# Altium schematic symbol library MCU_ST_STM32L4.SchLib: 320 symbols (part 2 of 9)
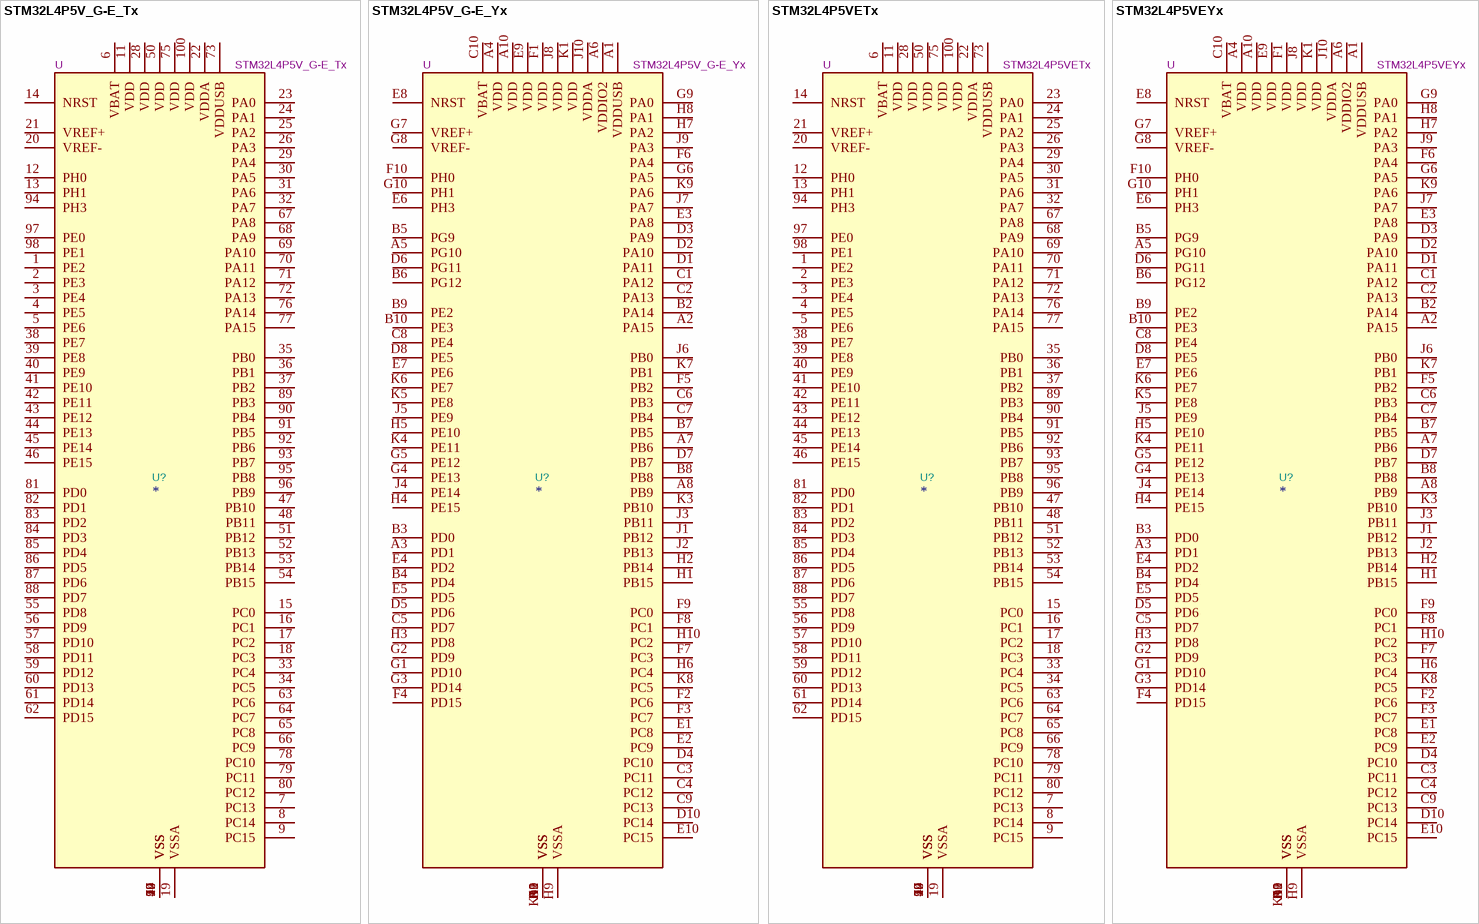
[diagram p64: symbols STM32L4P5V_G-E_Tx to STM32L4P5VEYx]

## STM32L4P5VETx
designator U?  value STM32L4P5VETx  Reference: U
STMicroelectronics Arm Cortex-M4 MCU, 512KB flash, 320KB RAM, 120 MHz, 1.71-3.6V, 83 GPIO, LQFP100; ki_keywords: Arm Cortex-M4 STM32L4+ STM32L4P5/Q5; ki_fp_filters: LQFP*14x14mm*P0.5mm*; Footprint: Package_QFP:LQFP-100_14x14mm_P0.5mm; Datasheet: https://www.st.com/resource/en/datasheet/stm32l4p5ve.pdf; Description_: STMicroelectronics Arm Cortex-M4 MCU, 512KB flash, 320KB RAM, 120 MHz, 1.71-3.6V, 83 GPIO, LQFP100
pins: 1 PE2, 2 PE3, 3 PE4, 4 PE5, 5 PE6, 6 VBAT, 7 PC13, 8 PC14, 9 PC15, 10 VSS, 11 VDD, 12 PH0, 13 PH1, 14 NRST, 15 PC0, 16 PC1, 17 PC2, 18 PC3, 19 VSSA, 20 VREF-, 21 VREF+, 22 VDDA, 23 PA0, 24 PA1, 25 PA2, 26 PA3, 27 VSS, 28 VDD, 29 PA4, 30 PA5, 31 PA6, 32 PA7, 33 PC4, 34 PC5, 35 PB0, 36 PB1, 37 PB2, 38 PE7, 39 PE8, 40 PE9, 41 PE10, 42 PE11, 43 PE12, 44 PE13, 45 PE14, 46 PE15, 47 PB10, 48 PB11, 49 VSS, 50 VDD, 51 PB12, 52 PB13, 53 PB14, 54 PB15, 55 PD8, 56 PD9, 57 PD10, 58 PD11, 59 PD12, 60 PD13, 61 PD14, 62 PD15, 63 PC6, 64 PC7, 65 PC8, 66 PC9, 67 PA8, 68 PA9, 69 PA10, 70 PA11, 71 PA12, 72 PA13, 73 VDDUSB, 74 VSS, 75 VDD, 76 PA14, 77 PA15, 78 PC10, 79 PC11, 80 PC12, 81 PD0, 82 PD1, 83 PD2, 84 PD3, 85 PD4, 86 PD5, 87 PD6, 88 PD7, 89 PB3, 90 PB4, 91 PB5, 92 PB6, 93 PB7, 94 PH3, 95 PB8, 96 PB9, 97 PE0, 98 PE1, 99 VSS, 100 VDD

## STM32L4P5VEYx
designator U?  value STM32L4P5VEYx  Reference: U
STMicroelectronics Arm Cortex-M4 MCU, 512KB flash, 320KB RAM, 120 MHz, 1.71-3.6V, 81 GPIO, WLCSP100; ki_keywords: Arm Cortex-M4 STM32L4+ STM32L4P5/Q5; ki_fp_filters: ST*WLCSP*4.437x4.456mm*Layout10x10*P0.4mm*; Footprint: Package_CSP:ST_WLCSP-100_4.437x4.456mm_Layout10x10_P0.4mm; Datasheet: https://www.st.com/resource/en/datasheet/stm32l4p5ve.pdf; Description_: STMicroelectronics Arm Cortex-M4 MCU, 512KB flash, 320KB RAM, 120 MHz, 1.71-3.6V, 81 GPIO, WLCSP100
pins: A1 VDDUSB, A2 PA15, A3 PD1, A4 VDD, A5 PG10, A6 VDDIO2, A7 PB6, A8 PB9, A9 VSS, A10 VDD, B1 VSS, B2 PA14, B3 PD0, B4 PD4, B5 PG9, B6 PG12, B7 PB5, B8 PB8, B9 PE2, B10 PE3, C1 PA12, C2 PA13, C3 PC11, C4 PC12, C5 PD7, C6 PB3, C7 PB4, C8 PE4, C9 PC13, C10 VBAT, D1 PA11, D2 PA10, D3 PA9, D4 PC10, D5 PD6, D6 PG11, D7 PB7, D8 PE5, D9 VSS, D10 PC14, E1 PC8, E2 PC9, E3 PA8, E4 PD2, E5 PD5, E6 PH3, E7 PE6, E8 NRST, E9 VDD, E10 PC15, F1 VDD, F2 PC6, F3 PC7, F4 PD15, F5 PB2, F6 PA4, F7 PC3, F8 PC1, F9 PC0, F10 PH0, G1 PD10, G2 PD9, G3 PD14, G4 PE13, G5 PE12, G6 PA5, G7 VREF+, G8 VREF-, G9 PA0, G10 PH1, H1 PB15, H2 PB14, H3 PD8, H4 PE15, H5 PE10, H6 PC4, H7 PA2, H8 PA1, H9 VSSA, H10 PC2, J1 PB12, J2 PB13, J3 PB11, J4 PE14, J5 PE9, J6 PB0, J7 PA7, J8 VDD, J9 PA3, J10 VDDA, K1 VDD, K2 VSS, K3 PB10, K4 PE11, K5 PE8, K6 PE7, K7 PB1, K8 PC5, K9 PA6, K10 VSS

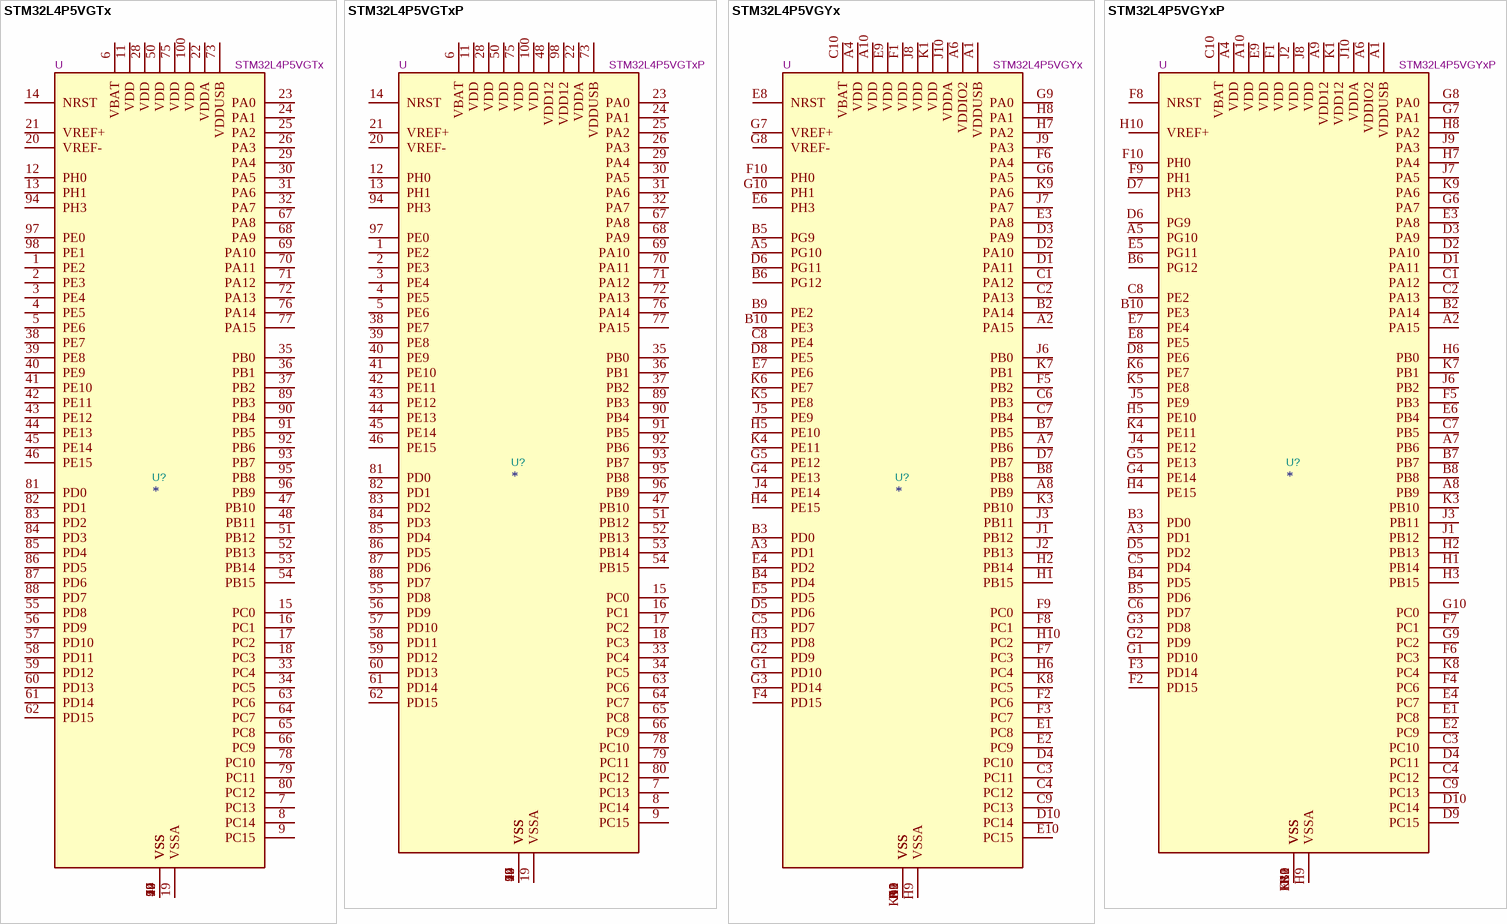
[diagram p9: symbols STM32L4P5VGTx to STM32L4P5VGYxP]

## STM32L4P5VGTx
designator U?  value STM32L4P5VGTx  Reference: U
STMicroelectronics Arm Cortex-M4 MCU, 1024KB flash, 320KB RAM, 120 MHz, 1.71-3.6V, 83 GPIO, LQFP100; ki_keywords: Arm Cortex-M4 STM32L4+ STM32L4P5/Q5; ki_fp_filters: LQFP*14x14mm*P0.5mm*; Footprint: Package_QFP:LQFP-100_14x14mm_P0.5mm; Datasheet: https://www.st.com/resource/en/datasheet/stm32l4p5vg.pdf; Description_: STMicroelectronics Arm Cortex-M4 MCU, 1024KB flash, 320KB RAM, 120 MHz, 1.71-3.6V, 83 GPIO, LQFP100
pins: 1 PE2, 2 PE3, 3 PE4, 4 PE5, 5 PE6, 6 VBAT, 7 PC13, 8 PC14, 9 PC15, 10 VSS, 11 VDD, 12 PH0, 13 PH1, 14 NRST, 15 PC0, 16 PC1, 17 PC2, 18 PC3, 19 VSSA, 20 VREF-, 21 VREF+, 22 VDDA, 23 PA0, 24 PA1, 25 PA2, 26 PA3, 27 VSS, 28 VDD, 29 PA4, 30 PA5, 31 PA6, 32 PA7, 33 PC4, 34 PC5, 35 PB0, 36 PB1, 37 PB2, 38 PE7, 39 PE8, 40 PE9, 41 PE10, 42 PE11, 43 PE12, 44 PE13, 45 PE14, 46 PE15, 47 PB10, 48 PB11, 49 VSS, 50 VDD, 51 PB12, 52 PB13, 53 PB14, 54 PB15, 55 PD8, 56 PD9, 57 PD10, 58 PD11, 59 PD12, 60 PD13, 61 PD14, 62 PD15, 63 PC6, 64 PC7, 65 PC8, 66 PC9, 67 PA8, 68 PA9, 69 PA10, 70 PA11, 71 PA12, 72 PA13, 73 VDDUSB, 74 VSS, 75 VDD, 76 PA14, 77 PA15, 78 PC10, 79 PC11, 80 PC12, 81 PD0, 82 PD1, 83 PD2, 84 PD3, 85 PD4, 86 PD5, 87 PD6, 88 PD7, 89 PB3, 90 PB4, 91 PB5, 92 PB6, 93 PB7, 94 PH3, 95 PB8, 96 PB9, 97 PE0, 98 PE1, 99 VSS, 100 VDD

## STM32L4P5VGTxP
designator U?  value STM32L4P5VGTxP  Reference: U
STMicroelectronics Arm Cortex-M4 MCU, 1024KB flash, 320KB RAM, 120 MHz, 1.71-3.6V, 81 GPIO, LQFP100; ki_keywords: Arm Cortex-M4 STM32L4+ STM32L4P5/Q5; ki_fp_filters: LQFP*14x14mm*P0.5mm*; Footprint: Package_QFP:LQFP-100_14x14mm_P0.5mm; Datasheet: https://www.st.com/resource/en/datasheet/stm32l4p5vg.pdf; Description_: STMicroelectronics Arm Cortex-M4 MCU, 1024KB flash, 320KB RAM, 120 MHz, 1.71-3.6V, 81 GPIO, LQFP100
pins: 1 PE2, 2 PE3, 3 PE4, 4 PE5, 5 PE6, 6 VBAT, 7 PC13, 8 PC14, 9 PC15, 10 VSS, 11 VDD, 12 PH0, 13 PH1, 14 NRST, 15 PC0, 16 PC1, 17 PC2, 18 PC3, 19 VSSA, 20 VREF-, 21 VREF+, 22 VDDA, 23 PA0, 24 PA1, 25 PA2, 26 PA3, 27 VSS, 28 VDD, 29 PA4, 30 PA5, 31 PA6, 32 PA7, 33 PC4, 34 PC5, 35 PB0, 36 PB1, 37 PB2, 38 PE7, 39 PE8, 40 PE9, 41 PE10, 42 PE11, 43 PE12, 44 PE13, 45 PE14, 46 PE15, 47 PB10, 48 VDD12, 49 VSS, 50 VDD, 51 PB12, 52 PB13, 53 PB14, 54 PB15, 55 PD8, 56 PD9, 57 PD10, 58 PD11, 59 PD12, 60 PD13, 61 PD14, 62 PD15, 63 PC6, 64 PC7, 65 PC8, 66 PC9, 67 PA8, 68 PA9, 69 PA10, 70 PA11, 71 PA12, 72 PA13, 73 VDDUSB, 74 VSS, 75 VDD, 76 PA14, 77 PA15, 78 PC10, 79 PC11, 80 PC12, 81 PD0, 82 PD1, 83 PD2, 84 PD3, 85 PD4, 86 PD5, 87 PD6, 88 PD7, 89 PB3, 90 PB4, 91 PB5, 92 PB6, 93 PB7, 94 PH3, 95 PB8, 96 PB9, 97 PE0, 98 VDD12, 99 VSS, 100 VDD

## STM32L4P5VGYx
designator U?  value STM32L4P5VGYx  Reference: U
STMicroelectronics Arm Cortex-M4 MCU, 1024KB flash, 320KB RAM, 120 MHz, 1.71-3.6V, 81 GPIO, WLCSP100; ki_keywords: Arm Cortex-M4 STM32L4+ STM32L4P5/Q5; ki_fp_filters: ST*WLCSP*4.437x4.456mm*Layout10x10*P0.4mm*; Footprint: Package_CSP:ST_WLCSP-100_4.437x4.456mm_Layout10x10_P0.4mm; Datasheet: https://www.st.com/resource/en/datasheet/stm32l4p5vg.pdf; Description_: STMicroelectronics Arm Cortex-M4 MCU, 1024KB flash, 320KB RAM, 120 MHz, 1.71-3.6V, 81 GPIO, WLCSP100
pins: A1 VDDUSB, A2 PA15, A3 PD1, A4 VDD, A5 PG10, A6 VDDIO2, A7 PB6, A8 PB9, A9 VSS, A10 VDD, B1 VSS, B2 PA14, B3 PD0, B4 PD4, B5 PG9, B6 PG12, B7 PB5, B8 PB8, B9 PE2, B10 PE3, C1 PA12, C2 PA13, C3 PC11, C4 PC12, C5 PD7, C6 PB3, C7 PB4, C8 PE4, C9 PC13, C10 VBAT, D1 PA11, D2 PA10, D3 PA9, D4 PC10, D5 PD6, D6 PG11, D7 PB7, D8 PE5, D9 VSS, D10 PC14, E1 PC8, E2 PC9, E3 PA8, E4 PD2, E5 PD5, E6 PH3, E7 PE6, E8 NRST, E9 VDD, E10 PC15, F1 VDD, F2 PC6, F3 PC7, F4 PD15, F5 PB2, F6 PA4, F7 PC3, F8 PC1, F9 PC0, F10 PH0, G1 PD10, G2 PD9, G3 PD14, G4 PE13, G5 PE12, G6 PA5, G7 VREF+, G8 VREF-, G9 PA0, G10 PH1, H1 PB15, H2 PB14, H3 PD8, H4 PE15, H5 PE10, H6 PC4, H7 PA2, H8 PA1, H9 VSSA, H10 PC2, J1 PB12, J2 PB13, J3 PB11, J4 PE14, J5 PE9, J6 PB0, J7 PA7, J8 VDD, J9 PA3, J10 VDDA, K1 VDD, K2 VSS, K3 PB10, K4 PE11, K5 PE8, K6 PE7, K7 PB1, K8 PC5, K9 PA6, K10 VSS

## STM32L4P5VGYxP
designator U?  value STM32L4P5VGYxP  Reference: U
STMicroelectronics Arm Cortex-M4 MCU, 1024KB flash, 320KB RAM, 120 MHz, 1.71-3.6V, 80 GPIO, WLCSP100; ki_keywords: Arm Cortex-M4 STM32L4+ STM32L4P5/Q5; ki_fp_filters: ST*WLCSP*4.437x4.456mm*Layout10x10*P0.4mm*; Footprint: Package_CSP:ST_WLCSP-100_4.437x4.456mm_Layout10x10_P0.4mm; Datasheet: https://www.st.com/resource/en/datasheet/stm32l4p5vg.pdf; Description_: STMicroelectronics Arm Cortex-M4 MCU, 1024KB flash, 320KB RAM, 120 MHz, 1.71-3.6V, 80 GPIO, WLCSP100
pins: A1 VDDUSB, A2 PA15, A3 PD1, A4 VDD, A5 PG10, A6 VDDIO2, A7 PB6, A8 PB9, A9 VDD12, A10 VDD, B1 VSS, B2 PA14, B3 PD0, B4 PD5, B5 PD6, B6 PG12, B7 PB7, B8 PB8, B9 VSS, B10 PE3, C1 PA12, C2 PA13, C3 PC10, C4 PC12, C5 PD4, C6 PD7, C7 PB5, C8 PE2, C9 PC13, C10 VBAT, D1 PA11, D2 PA10, D3 PA9, D4 PC11, D5 PD2, D6 PG9, D7 PH3, D8 PE6, D9 PC15, D10 PC14, E1 PC8, E2 PC9, E3 PA8, E4 PC7, E5 PG11, E6 PB4, E7 PE4, E8 PE5, E9 VDD, E10 VSS, F1 VDD, F2 PD15, F3 PD14, F4 PC6, F5 PB3, F6 PC3, F7 PC1, F8 NRST, F9 PH1, F10 PH0, G1 PD10, G2 PD9, G3 PD8, G4 PE14, G5 PE13, G6 PA7, G7 PA1, G8 PA0, G9 PC2, G10 PC0, H1 PB14, H2 PB13, H3 PB15, H4 PE15, H5 PE10, H6 PB0, H7 PA4, H8 PA2, H9 VSSA, H10 VREF+, J1 PB12, J2 VDD, J3 PB11, J4 PE12, J5 PE9, J6 PB2, J7 PA5, J8 VDD, J9 PA3, J10 VDDA, K1 VDD12, K2 VSS, K3 PB10, K4 PE11, K5 PE8, K6 PE7, K7 PB1, K8 PC4, K9 PA6, K10 VSS

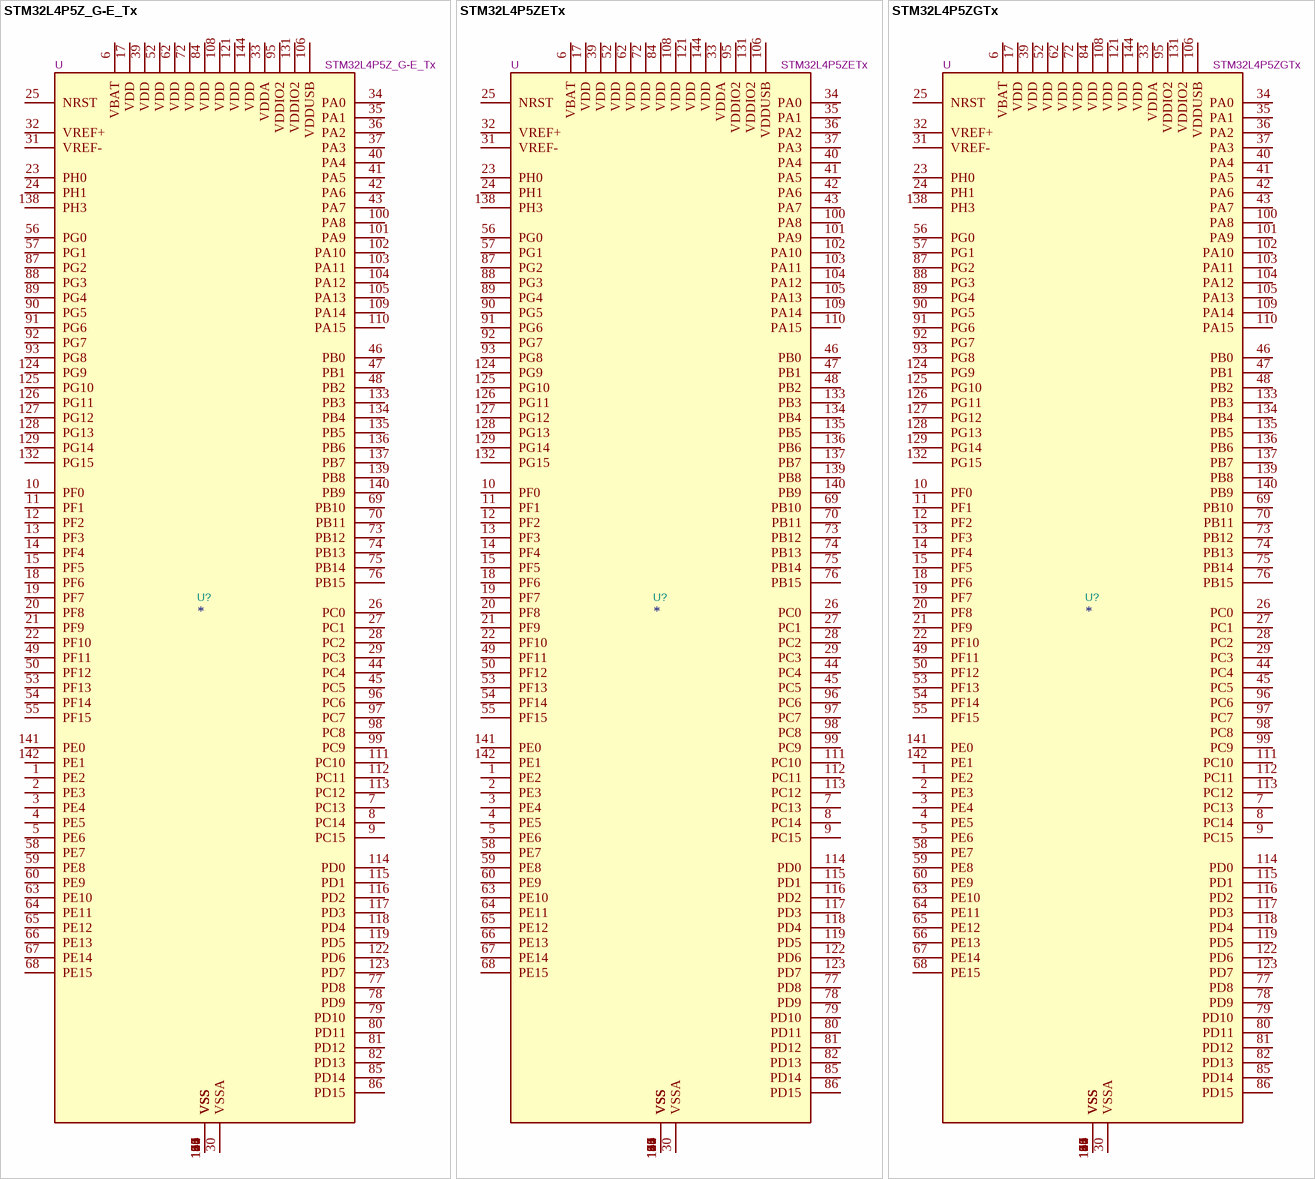
[diagram p10: symbols STM32L4P5Z_G-E_Tx to STM32L4P5ZGTx]

## STM32L4P5Z_G-E_Tx
designator U?  value STM32L4P5Z_G-E_Tx  Reference: U
STMicroelectronics Arm Cortex-M4 MCU, 512-1024KB flash, 320KB RAM, 120 MHz, 1.71-3.6V, 115 GPIO, LQFP144; ki_keywords: Arm Cortex-M4 STM32L4+ STM32L4P5/Q5; ki_fp_filters: LQFP*20x20mm*P0.5mm*; Footprint: Package_QFP:LQFP-144_20x20mm_P0.5mm; Datasheet: https://www.st.com/resource/en/datasheet/stm32l4p5zg.pdf; Description_: STMicroelectronics Arm Cortex-M4 MCU, 512-1024KB flash, 320KB RAM, 120 MHz, 1.71-3.6V, 115 GPIO, LQFP144
pins: 1 PE2, 2 PE3, 3 PE4, 4 PE5, 5 PE6, 6 VBAT, 7 PC13, 8 PC14, 9 PC15, 10 PF0, 11 PF1, 12 PF2, 13 PF3, 14 PF4, 15 PF5, 16 VSS, 17 VDD, 18 PF6, 19 PF7, 20 PF8, 21 PF9, 22 PF10, 23 PH0, 24 PH1, 25 NRST, 26 PC0, 27 PC1, 28 PC2, 29 PC3, 30 VSSA, 31 VREF-, 32 VREF+, 33 VDDA, 34 PA0, 35 PA1, 36 PA2, 37 PA3, 38 VSS, 39 VDD, 40 PA4, 41 PA5, 42 PA6, 43 PA7, 44 PC4, 45 PC5, 46 PB0, 47 PB1, 48 PB2, 49 PF11, 50 PF12, 51 VSS, 52 VDD, 53 PF13, 54 PF14, 55 PF15, 56 PG0, 57 PG1, 58 PE7, 59 PE8, 60 PE9, 61 VSS, 62 VDD, 63 PE10, 64 PE11, 65 PE12, 66 PE13, 67 PE14, 68 PE15, 69 PB10, 70 PB11, 71 VSS, 72 VDD, 73 PB12, 74 PB13, 75 PB14, 76 PB15, 77 PD8, 78 PD9, 79 PD10, 80 PD11, 81 PD12, 82 PD13, 83 VSS, 84 VDD, 85 PD14, 86 PD15, 87 PG2, 88 PG3, 89 PG4, 90 PG5, 91 PG6, 92 PG7, 93 PG8, 94 VSS, 95 VDDIO2, 96 PC6, 97 PC7, 98 PC8, 99 PC9, 100 PA8, 101 PA9, 102 PA10, 103 PA11, 104 PA12, 105 PA13, 106 VDDUSB, 107 VSS, 108 VDD, 109 PA14, 110 PA15, 111 PC10, 112 PC11, 113 PC12, 114 PD0, 115 PD1, 116 PD2, 117 PD3, 118 PD4, 119 PD5, 120 VSS, 121 VDD, 122 PD6, 123 PD7, 124 PG9, 125 PG10, 126 PG11, 127 PG12, 128 PG13, 129 PG14, 130 VSS, 131 VDDIO2, 132 PG15, 133 PB3, 134 PB4, 135 PB5, 136 PB6, 137 PB7, 138 PH3, 139 PB8, 140 PB9, 141 PE0, 142 PE1, 143 VSS, 144 VDD

## STM32L4P5ZETx
designator U?  value STM32L4P5ZETx  Reference: U
STMicroelectronics Arm Cortex-M4 MCU, 512KB flash, 320KB RAM, 120 MHz, 1.71-3.6V, 115 GPIO, LQFP144; ki_keywords: Arm Cortex-M4 STM32L4+ STM32L4P5/Q5; ki_fp_filters: LQFP*20x20mm*P0.5mm*; Footprint: Package_QFP:LQFP-144_20x20mm_P0.5mm; Datasheet: https://www.st.com/resource/en/datasheet/stm32l4p5ze.pdf; Description_: STMicroelectronics Arm Cortex-M4 MCU, 512KB flash, 320KB RAM, 120 MHz, 1.71-3.6V, 115 GPIO, LQFP144
pins: 1 PE2, 2 PE3, 3 PE4, 4 PE5, 5 PE6, 6 VBAT, 7 PC13, 8 PC14, 9 PC15, 10 PF0, 11 PF1, 12 PF2, 13 PF3, 14 PF4, 15 PF5, 16 VSS, 17 VDD, 18 PF6, 19 PF7, 20 PF8, 21 PF9, 22 PF10, 23 PH0, 24 PH1, 25 NRST, 26 PC0, 27 PC1, 28 PC2, 29 PC3, 30 VSSA, 31 VREF-, 32 VREF+, 33 VDDA, 34 PA0, 35 PA1, 36 PA2, 37 PA3, 38 VSS, 39 VDD, 40 PA4, 41 PA5, 42 PA6, 43 PA7, 44 PC4, 45 PC5, 46 PB0, 47 PB1, 48 PB2, 49 PF11, 50 PF12, 51 VSS, 52 VDD, 53 PF13, 54 PF14, 55 PF15, 56 PG0, 57 PG1, 58 PE7, 59 PE8, 60 PE9, 61 VSS, 62 VDD, 63 PE10, 64 PE11, 65 PE12, 66 PE13, 67 PE14, 68 PE15, 69 PB10, 70 PB11, 71 VSS, 72 VDD, 73 PB12, 74 PB13, 75 PB14, 76 PB15, 77 PD8, 78 PD9, 79 PD10, 80 PD11, 81 PD12, 82 PD13, 83 VSS, 84 VDD, 85 PD14, 86 PD15, 87 PG2, 88 PG3, 89 PG4, 90 PG5, 91 PG6, 92 PG7, 93 PG8, 94 VSS, 95 VDDIO2, 96 PC6, 97 PC7, 98 PC8, 99 PC9, 100 PA8, 101 PA9, 102 PA10, 103 PA11, 104 PA12, 105 PA13, 106 VDDUSB, 107 VSS, 108 VDD, 109 PA14, 110 PA15, 111 PC10, 112 PC11, 113 PC12, 114 PD0, 115 PD1, 116 PD2, 117 PD3, 118 PD4, 119 PD5, 120 VSS, 121 VDD, 122 PD6, 123 PD7, 124 PG9, 125 PG10, 126 PG11, 127 PG12, 128 PG13, 129 PG14, 130 VSS, 131 VDDIO2, 132 PG15, 133 PB3, 134 PB4, 135 PB5, 136 PB6, 137 PB7, 138 PH3, 139 PB8, 140 PB9, 141 PE0, 142 PE1, 143 VSS, 144 VDD

## STM32L4P5ZGTx
designator U?  value STM32L4P5ZGTx  Reference: U
STMicroelectronics Arm Cortex-M4 MCU, 1024KB flash, 320KB RAM, 120 MHz, 1.71-3.6V, 115 GPIO, LQFP144; ki_keywords: Arm Cortex-M4 STM32L4+ STM32L4P5/Q5; ki_fp_filters: LQFP*20x20mm*P0.5mm*; Footprint: Package_QFP:LQFP-144_20x20mm_P0.5mm; Datasheet: https://www.st.com/resource/en/datasheet/stm32l4p5zg.pdf; Description_: STMicroelectronics Arm Cortex-M4 MCU, 1024KB flash, 320KB RAM, 120 MHz, 1.71-3.6V, 115 GPIO, LQFP144
pins: 1 PE2, 2 PE3, 3 PE4, 4 PE5, 5 PE6, 6 VBAT, 7 PC13, 8 PC14, 9 PC15, 10 PF0, 11 PF1, 12 PF2, 13 PF3, 14 PF4, 15 PF5, 16 VSS, 17 VDD, 18 PF6, 19 PF7, 20 PF8, 21 PF9, 22 PF10, 23 PH0, 24 PH1, 25 NRST, 26 PC0, 27 PC1, 28 PC2, 29 PC3, 30 VSSA, 31 VREF-, 32 VREF+, 33 VDDA, 34 PA0, 35 PA1, 36 PA2, 37 PA3, 38 VSS, 39 VDD, 40 PA4, 41 PA5, 42 PA6, 43 PA7, 44 PC4, 45 PC5, 46 PB0, 47 PB1, 48 PB2, 49 PF11, 50 PF12, 51 VSS, 52 VDD, 53 PF13, 54 PF14, 55 PF15, 56 PG0, 57 PG1, 58 PE7, 59 PE8, 60 PE9, 61 VSS, 62 VDD, 63 PE10, 64 PE11, 65 PE12, 66 PE13, 67 PE14, 68 PE15, 69 PB10, 70 PB11, 71 VSS, 72 VDD, 73 PB12, 74 PB13, 75 PB14, 76 PB15, 77 PD8, 78 PD9, 79 PD10, 80 PD11, 81 PD12, 82 PD13, 83 VSS, 84 VDD, 85 PD14, 86 PD15, 87 PG2, 88 PG3, 89 PG4, 90 PG5, 91 PG6, 92 PG7, 93 PG8, 94 VSS, 95 VDDIO2, 96 PC6, 97 PC7, 98 PC8, 99 PC9, 100 PA8, 101 PA9, 102 PA10, 103 PA11, 104 PA12, 105 PA13, 106 VDDUSB, 107 VSS, 108 VDD, 109 PA14, 110 PA15, 111 PC10, 112 PC11, 113 PC12, 114 PD0, 115 PD1, 116 PD2, 117 PD3, 118 PD4, 119 PD5, 120 VSS, 121 VDD, 122 PD6, 123 PD7, 124 PG9, 125 PG10, 126 PG11, 127 PG12, 128 PG13, 129 PG14, 130 VSS, 131 VDDIO2, 132 PG15, 133 PB3, 134 PB4, 135 PB5, 136 PB6, 137 PB7, 138 PH3, 139 PB8, 140 PB9, 141 PE0, 142 PE1, 143 VSS, 144 VDD

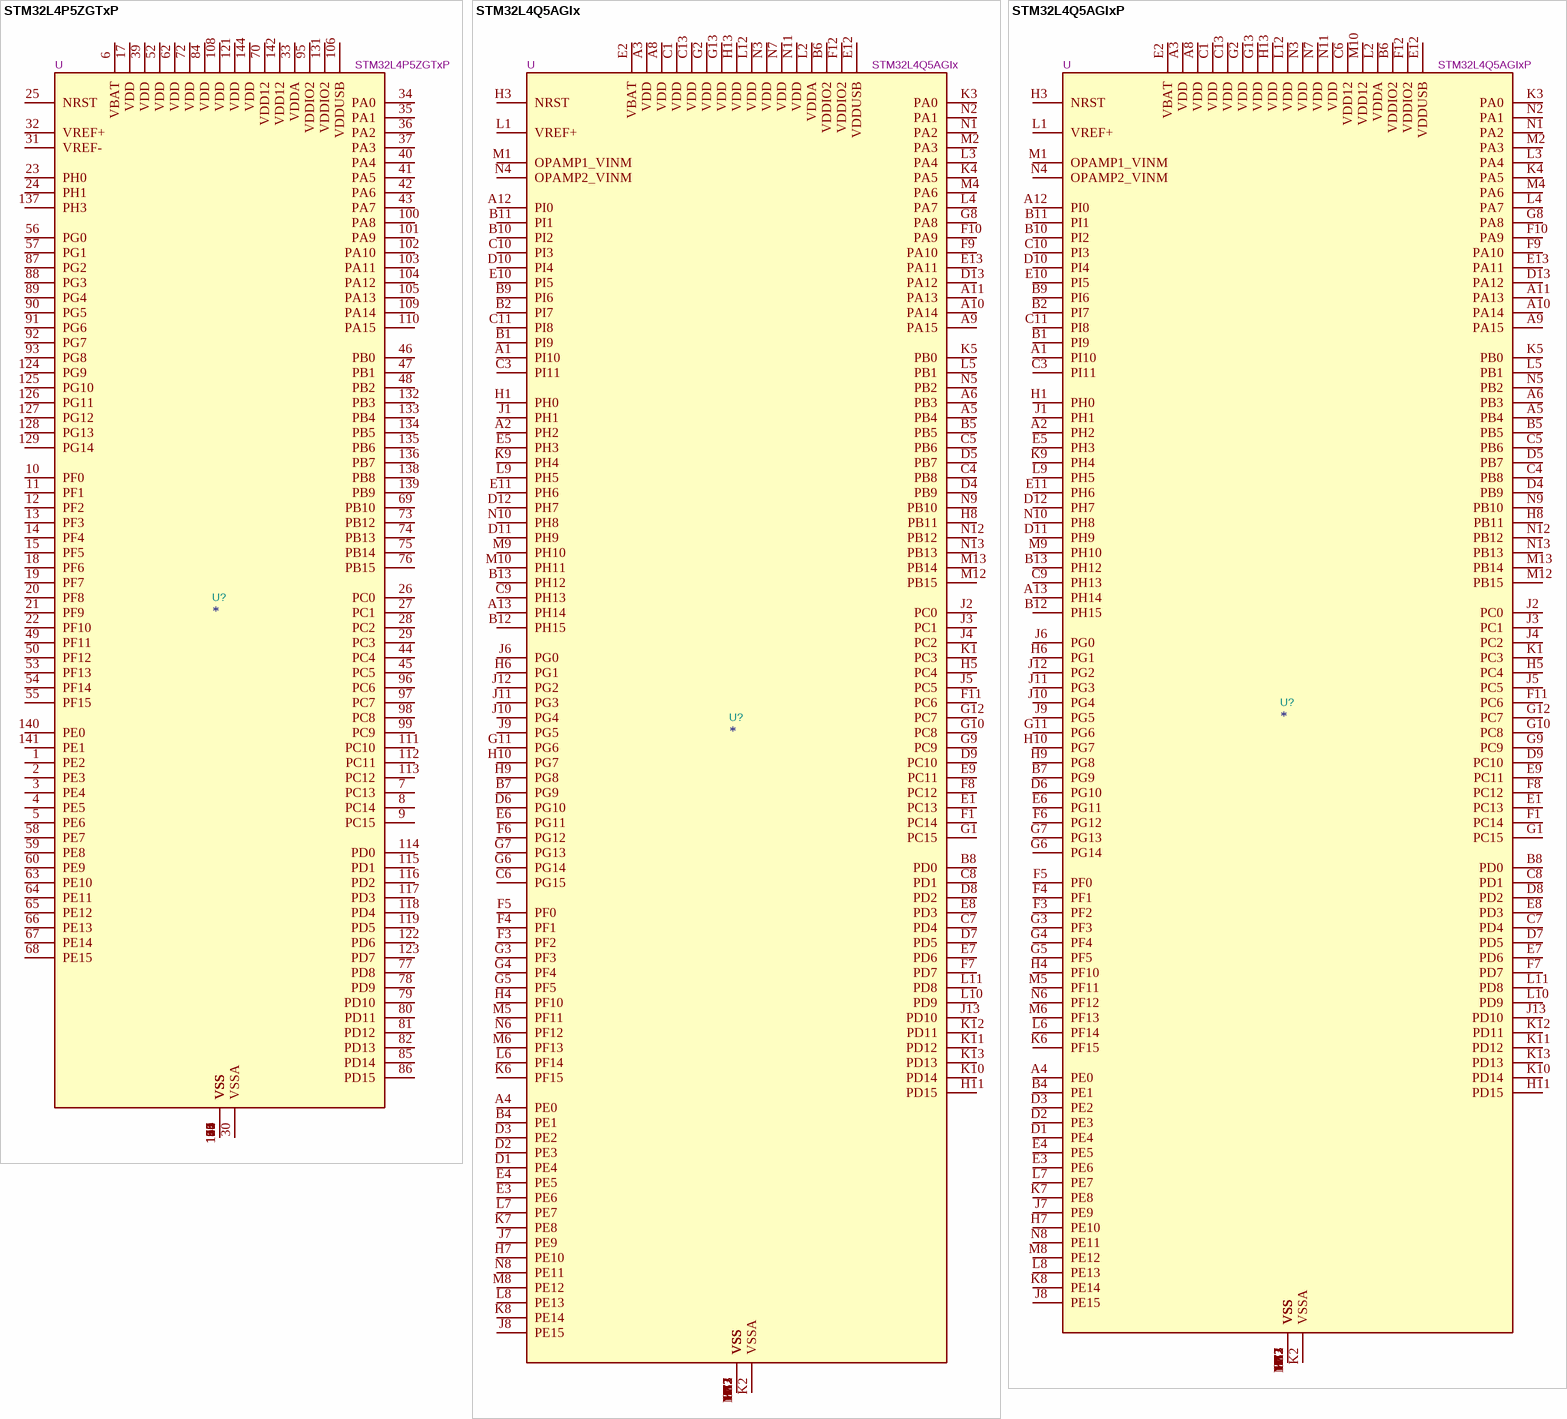
[diagram p11: symbols STM32L4P5ZGTxP to STM32L4Q5AGIxP]

## STM32L4P5ZGTxP
designator U?  value STM32L4P5ZGTxP  Reference: U
STMicroelectronics Arm Cortex-M4 MCU, 1024KB flash, 320KB RAM, 120 MHz, 1.71-3.6V, 113 GPIO, LQFP144; ki_keywords: Arm Cortex-M4 STM32L4+ STM32L4P5/Q5; ki_fp_filters: LQFP*20x20mm*P0.5mm*; Footprint: Package_QFP:LQFP-144_20x20mm_P0.5mm; Datasheet: https://www.st.com/resource/en/datasheet/stm32l4p5zg.pdf; Description_: STMicroelectronics Arm Cortex-M4 MCU, 1024KB flash, 320KB RAM, 120 MHz, 1.71-3.6V, 113 GPIO, LQFP144
pins: 1 PE2, 2 PE3, 3 PE4, 4 PE5, 5 PE6, 6 VBAT, 7 PC13, 8 PC14, 9 PC15, 10 PF0, 11 PF1, 12 PF2, 13 PF3, 14 PF4, 15 PF5, 16 VSS, 17 VDD, 18 PF6, 19 PF7, 20 PF8, 21 PF9, 22 PF10, 23 PH0, 24 PH1, 25 NRST, 26 PC0, 27 PC1, 28 PC2, 29 PC3, 30 VSSA, 31 VREF-, 32 VREF+, 33 VDDA, 34 PA0, 35 PA1, 36 PA2, 37 PA3, 38 VSS, 39 VDD, 40 PA4, 41 PA5, 42 PA6, 43 PA7, 44 PC4, 45 PC5, 46 PB0, 47 PB1, 48 PB2, 49 PF11, 50 PF12, 51 VSS, 52 VDD, 53 PF13, 54 PF14, 55 PF15, 56 PG0, 57 PG1, 58 PE7, 59 PE8, 60 PE9, 61 VSS, 62 VDD, 63 PE10, 64 PE11, 65 PE12, 66 PE13, 67 PE14, 68 PE15, 69 PB10, 70 VDD12, 71 VSS, 72 VDD, 73 PB12, 74 PB13, 75 PB14, 76 PB15, 77 PD8, 78 PD9, 79 PD10, 80 PD11, 81 PD12, 82 PD13, 83 VSS, 84 VDD, 85 PD14, 86 PD15, 87 PG2, 88 PG3, 89 PG4, 90 PG5, 91 PG6, 92 PG7, 93 PG8, 94 VSS, 95 VDDIO2, 96 PC6, 97 PC7, 98 PC8, 99 PC9, 100 PA8, 101 PA9, 102 PA10, 103 PA11, 104 PA12, 105 PA13, 106 VDDUSB, 107 VSS, 108 VDD, 109 PA14, 110 PA15, 111 PC10, 112 PC11, 113 PC12, 114 PD0, 115 PD1, 116 PD2, 117 PD3, 118 PD4, 119 PD5, 120 VSS, 121 VDD, 122 PD6, 123 PD7, 124 PG9, 125 PG10, 126 PG11, 127 PG12, 128 PG13, 129 PG14, 130 VSS, 131 VDDIO2, 132 PB3, 133 PB4, 134 PB5, 135 PB6, 136 PB7, 137 PH3, 138 PB8, 139 PB9, 140 PE0, 141 PE1, 142 VDD12, 143 VSS, 144 VDD

## STM32L4Q5AGIx
designator U?  value STM32L4Q5AGIx  Reference: U
STMicroelectronics Arm Cortex-M4 MCU, 1024KB flash, 320KB RAM, 120 MHz, 1.71-3.6V, 136 GPIO, UFBGA169; ki_keywords: Arm Cortex-M4 STM32L4+ STM32L4P5/Q5; ki_fp_filters: UFBGA*7x7mm*Layout13x13*P0.5mm*; Footprint: Package_BGA:UFBGA-169_7x7mm_Layout13x13_P0.5mm; Datasheet: https://www.st.com/resource/en/datasheet/stm32l4q5ag.pdf; Description_: STMicroelectronics Arm Cortex-M4 MCU, 1024KB flash, 320KB RAM, 120 MHz, 1.71-3.6V, 136 GPIO, UFBGA169
pins: A1 PI10, A2 PH2, A3 VDD, A4 PE0, A5 PB4, A6 PB3, A7 VSS, A8 VDD, A9 PA15, A10 PA14, A11 PA13, A12 PI0, A13 PH14, B1 PI9, B2 PI7, B3 VSS, B4 PE1, B5 PB5, B6 VDDIO2, B7 PG9, B8 PD0, B9 PI6, B10 PI2, B11 PI1, B12 PH15, B13 PH12, C1 VDD, C2 VSS, C3 PI11, C4 PB8, C5 PB6, C6 PG15, C7 PD4, C8 PD1, C9 PH13, C10 PI3, C11 PI8, C12 VSS, C13 VDD, D1 PE4, D2 PE3, D3 PE2, D4 PB9, D5 PB7, D6 PG10, D7 PD5, D8 PD2, D9 PC10, D10 PI4, D11 PH9, D12 PH7, D13 PA12, E1 PC13, E2 VBAT, E3 PE6, E4 PE5, E5 PH3, E6 PG11, E7 PD6, E8 PD3, E9 PC11, E10 PI5, E11 PH6, E12 VDDUSB, E13 PA11, F1 PC14, F2 VSS, F3 PF2, F4 PF1, F5 PF0, F6 PG12, F7 PD7, F8 PC12, F9 PA10, F10 PA9, F11 PC6, F12 VDDIO2, F13 VSS, G1 PC15, G2 VDD, G3 PF3, G4 PF4, G5 PF5, G6 PG14, G7 PG13, G8 PA8, G9 PC9, G10 PC8, G11 PG6, G12 PC7, G13 VDD, H1 PH0, H2 VSS, H3 NRST, H4 PF10, H5 PC4, H6 PG1, H7 PE10, H8 PB11, H9 PG8, H10 PG7, H11 PD15, H12 VSS, H13 VDD, J1 PH1, J2 PC0, J3 PC1, J4 PC2, J5 PC5, J6 PG0, J7 PE9, J8 PE15, J9 PG5, J10 PG4, J11 PG3, J12 PG2, J13 PD10, K1 PC3, K2 VSSA, K3 PA0, K4 PA5, K5 PB0, K6 PF15, K7 PE8, K8 PE14, K9 PH4, K10 PD14, K11 PD12, K12 PD11, K13 PD13, L1 VREF+, L2 VDDA, L3 PA4, L4 PA7, L5 PB1, L6 PF14, L7 PE7, L8 PE13, L9 PH5, L10 PD9, L11 PD8, L12 VDD, L13 VSS, M1 OPAMP1_VINM, M2 PA3, M3 VSS, M4 PA6, M5 PF11, M6 PF13, M7 VSS, M8 PE12, M9 PH10, M10 PH11, M11 VSS, M12 PB15, M13 PB14, N1 PA2, N2 PA1, N3 VDD, N4 OPAMP2_VINM, N5 PB2, N6 PF12, N7 VDD, N8 PE11, N9 PB10, N10 PH8, N11 VDD, N12 PB12, N13 PB13

## STM32L4Q5AGIxP
designator U?  value STM32L4Q5AGIxP  Reference: U
STMicroelectronics Arm Cortex-M4 MCU, 1024KB flash, 320KB RAM, 120 MHz, 1.71-3.6V, 134 GPIO, UFBGA169; ki_keywords: Arm Cortex-M4 STM32L4+ STM32L4P5/Q5; ki_fp_filters: UFBGA*7x7mm*Layout13x13*P0.5mm*; Footprint: Package_BGA:UFBGA-169_7x7mm_Layout13x13_P0.5mm; Datasheet: https://www.st.com/resource/en/datasheet/stm32l4q5ag.pdf; Description_: STMicroelectronics Arm Cortex-M4 MCU, 1024KB flash, 320KB RAM, 120 MHz, 1.71-3.6V, 134 GPIO, UFBGA169
pins: A1 PI10, A2 PH2, A3 VDD, A4 PE0, A5 PB4, A6 PB3, A7 VSS, A8 VDD, A9 PA15, A10 PA14, A11 PA13, A12 PI0, A13 PH14, B1 PI9, B2 PI7, B3 VSS, B4 PE1, B5 PB5, B6 VDDIO2, B7 PG9, B8 PD0, B9 PI6, B10 PI2, B11 PI1, B12 PH15, B13 PH12, C1 VDD, C2 VSS, C3 PI11, C4 PB8, C5 PB6, C6 VDD12, C7 PD4, C8 PD1, C9 PH13, C10 PI3, C11 PI8, C12 VSS, C13 VDD, D1 PE4, D2 PE3, D3 PE2, D4 PB9, D5 PB7, D6 PG10, D7 PD5, D8 PD2, D9 PC10, D10 PI4, D11 PH9, D12 PH7, D13 PA12, E1 PC13, E2 VBAT, E3 PE6, E4 PE5, E5 PH3, E6 PG11, E7 PD6, E8 PD3, E9 PC11, E10 PI5, E11 PH6, E12 VDDUSB, E13 PA11, F1 PC14, F2 VSS, F3 PF2, F4 PF1, F5 PF0, F6 PG12, F7 PD7, F8 PC12, F9 PA10, F10 PA9, F11 PC6, F12 VDDIO2, F13 VSS, G1 PC15, G2 VDD, G3 PF3, G4 PF4, G5 PF5, G6 PG14, G7 PG13, G8 PA8, G9 PC9, G10 PC8, G11 PG6, G12 PC7, G13 VDD, H1 PH0, H2 VSS, H3 NRST, H4 PF10, H5 PC4, H6 PG1, H7 PE10, H8 PB11, H9 PG8, H10 PG7, H11 PD15, H12 VSS, H13 VDD, J1 PH1, J2 PC0, J3 PC1, J4 PC2, J5 PC5, J6 PG0, J7 PE9, J8 PE15, J9 PG5, J10 PG4, J11 PG3, J12 PG2, J13 PD10, K1 PC3, K2 VSSA, K3 PA0, K4 PA5, K5 PB0, K6 PF15, K7 PE8, K8 PE14, K9 PH4, K10 PD14, K11 PD12, K12 PD11, K13 PD13, L1 VREF+, L2 VDDA, L3 PA4, L4 PA7, L5 PB1, L6 PF14, L7 PE7, L8 PE13, L9 PH5, L10 PD9, L11 PD8, L12 VDD, L13 VSS, M1 OPAMP1_VINM, M2 PA3, M3 VSS, M4 PA6, M5 PF11, M6 PF13, M7 VSS, M8 PE12, M9 PH10, M10 VDD12, M11 VSS, M12 PB15, M13 PB14, N1 PA2, N2 PA1, N3 VDD, N4 OPAMP2_VINM, N5 PB2, N6 PF12, N7 VDD, N8 PE11, N9 PB10, N10 PH8, N11 VDD, N12 PB12, N13 PB13

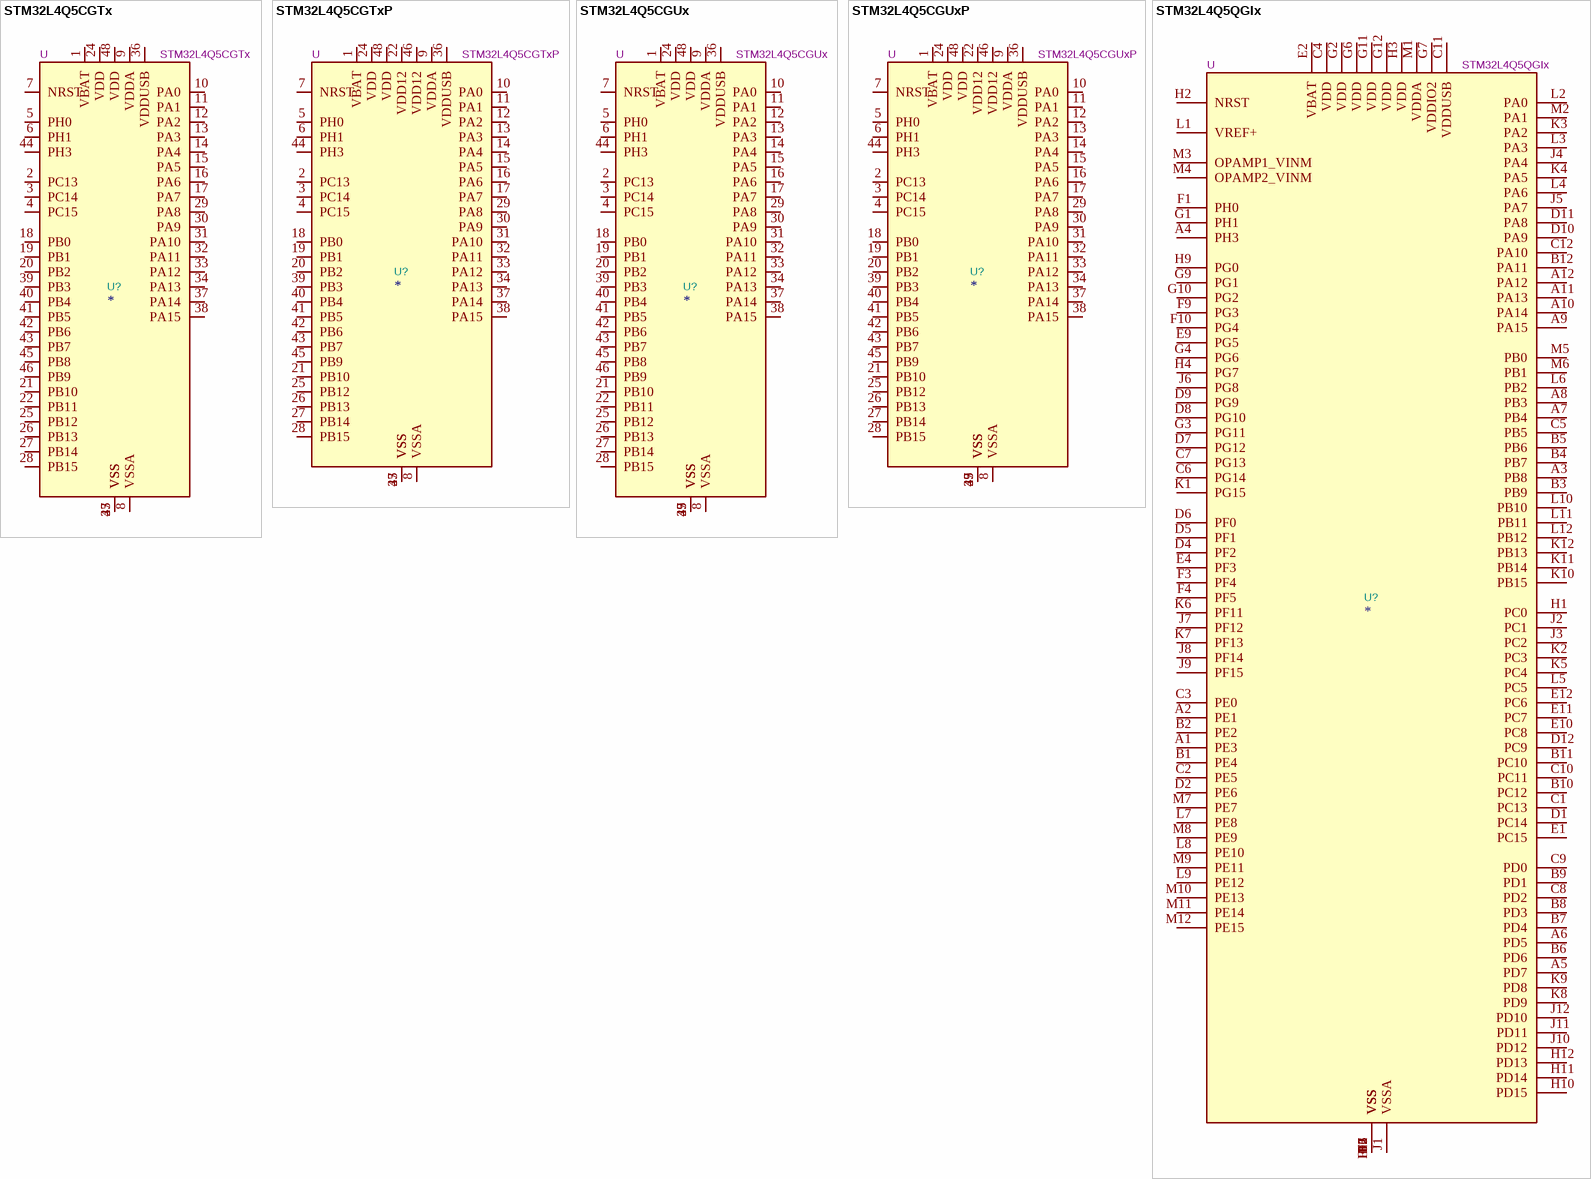
[diagram p12: symbols STM32L4Q5CGTx to STM32L4Q5QGIx]

## STM32L4Q5CGTx
designator U?  value STM32L4Q5CGTx  Reference: U
STMicroelectronics Arm Cortex-M4 MCU, 1024KB flash, 320KB RAM, 120 MHz, 1.71-3.6V, 38 GPIO, LQFP48; ki_keywords: Arm Cortex-M4 STM32L4+ STM32L4P5/Q5; ki_fp_filters: LQFP*7x7mm*P0.5mm*; Footprint: Package_QFP:LQFP-48_7x7mm_P0.5mm; Datasheet: https://www.st.com/resource/en/datasheet/stm32l4q5cg.pdf; Description_: STMicroelectronics Arm Cortex-M4 MCU, 1024KB flash, 320KB RAM, 120 MHz, 1.71-3.6V, 38 GPIO, LQFP48
pins: 1 VBAT, 2 PC13, 3 PC14, 4 PC15, 5 PH0, 6 PH1, 7 NRST, 8 VSSA, 9 VDDA, 10 PA0, 11 PA1, 12 PA2, 13 PA3, 14 PA4, 15 PA5, 16 PA6, 17 PA7, 18 PB0, 19 PB1, 20 PB2, 21 PB10, 22 PB11, 23 VSS, 24 VDD, 25 PB12, 26 PB13, 27 PB14, 28 PB15, 29 PA8, 30 PA9, 31 PA10, 32 PA11, 33 PA12, 34 PA13, 35 VSS, 36 VDDUSB, 37 PA14, 38 PA15, 39 PB3, 40 PB4, 41 PB5, 42 PB6, 43 PB7, 44 PH3, 45 PB8, 46 PB9, 47 VSS, 48 VDD

## STM32L4Q5CGTxP
designator U?  value STM32L4Q5CGTxP  Reference: U
STMicroelectronics Arm Cortex-M4 MCU, 1024KB flash, 320KB RAM, 120 MHz, 1.71-3.6V, 36 GPIO, LQFP48; ki_keywords: Arm Cortex-M4 STM32L4+ STM32L4P5/Q5; ki_fp_filters: LQFP*7x7mm*P0.5mm*; Footprint: Package_QFP:LQFP-48_7x7mm_P0.5mm; Datasheet: https://www.st.com/resource/en/datasheet/stm32l4q5cg.pdf; Description_: STMicroelectronics Arm Cortex-M4 MCU, 1024KB flash, 320KB RAM, 120 MHz, 1.71-3.6V, 36 GPIO, LQFP48
pins: 1 VBAT, 2 PC13, 3 PC14, 4 PC15, 5 PH0, 6 PH1, 7 NRST, 8 VSSA, 9 VDDA, 10 PA0, 11 PA1, 12 PA2, 13 PA3, 14 PA4, 15 PA5, 16 PA6, 17 PA7, 18 PB0, 19 PB1, 20 PB2, 21 PB10, 22 VDD12, 23 VSS, 24 VDD, 25 PB12, 26 PB13, 27 PB14, 28 PB15, 29 PA8, 30 PA9, 31 PA10, 32 PA11, 33 PA12, 34 PA13, 35 VSS, 36 VDDUSB, 37 PA14, 38 PA15, 39 PB3, 40 PB4, 41 PB5, 42 PB6, 43 PB7, 44 PH3, 45 PB9, 46 VDD12, 47 VSS, 48 VDD

## STM32L4Q5CGUx
designator U?  value STM32L4Q5CGUx  Reference: U
STMicroelectronics Arm Cortex-M4 MCU, 1024KB flash, 320KB RAM, 120 MHz, 1.71-3.6V, 38 GPIO, UFQFPN48; ki_keywords: Arm Cortex-M4 STM32L4+ STM32L4P5/Q5; ki_fp_filters: QFN*1EP*7x7mm*P0.5mm*; Footprint: Package_DFN_QFN:QFN-48-1EP_7x7mm_P0.5mm_EP5.6x5.6mm; Datasheet: https://www.st.com/resource/en/datasheet/stm32l4q5cg.pdf; Description_: STMicroelectronics Arm Cortex-M4 MCU, 1024KB flash, 320KB RAM, 120 MHz, 1.71-3.6V, 38 GPIO, UFQFPN48
pins: 1 VBAT, 2 PC13, 3 PC14, 4 PC15, 5 PH0, 6 PH1, 7 NRST, 8 VSSA, 9 VDDA, 10 PA0, 11 PA1, 12 PA2, 13 PA3, 14 PA4, 15 PA5, 16 PA6, 17 PA7, 18 PB0, 19 PB1, 20 PB2, 21 PB10, 22 PB11, 23 VSS, 24 VDD, 25 PB12, 26 PB13, 27 PB14, 28 PB15, 29 PA8, 30 PA9, 31 PA10, 32 PA11, 33 PA12, 34 PA13, 35 VSS, 36 VDDUSB, 37 PA14, 38 PA15, 39 PB3, 40 PB4, 41 PB5, 42 PB6, 43 PB7, 44 PH3, 45 PB8, 46 PB9, 47 VSS, 48 VDD, 49 VSS

## STM32L4Q5CGUxP
designator U?  value STM32L4Q5CGUxP  Reference: U
STMicroelectronics Arm Cortex-M4 MCU, 1024KB flash, 320KB RAM, 120 MHz, 1.71-3.6V, 36 GPIO, UFQFPN48; ki_keywords: Arm Cortex-M4 STM32L4+ STM32L4P5/Q5; ki_fp_filters: QFN*1EP*7x7mm*P0.5mm*; Footprint: Package_DFN_QFN:QFN-48-1EP_7x7mm_P0.5mm_EP5.6x5.6mm; Datasheet: https://www.st.com/resource/en/datasheet/stm32l4q5cg.pdf; Description_: STMicroelectronics Arm Cortex-M4 MCU, 1024KB flash, 320KB RAM, 120 MHz, 1.71-3.6V, 36 GPIO, UFQFPN48
pins: 1 VBAT, 2 PC13, 3 PC14, 4 PC15, 5 PH0, 6 PH1, 7 NRST, 8 VSSA, 9 VDDA, 10 PA0, 11 PA1, 12 PA2, 13 PA3, 14 PA4, 15 PA5, 16 PA6, 17 PA7, 18 PB0, 19 PB1, 20 PB2, 21 PB10, 22 VDD12, 23 VSS, 24 VDD, 25 PB12, 26 PB13, 27 PB14, 28 PB15, 29 PA8, 30 PA9, 31 PA10, 32 PA11, 33 PA12, 34 PA13, 35 VSS, 36 VDDUSB, 37 PA14, 38 PA15, 39 PB3, 40 PB4, 41 PB5, 42 PB6, 43 PB7, 44 PH3, 45 PB9, 46 VDD12, 47 VSS, 48 VDD, 49 VSS

## STM32L4Q5QGIx
designator U?  value STM32L4Q5QGIx  Reference: U
STMicroelectronics Arm Cortex-M4 MCU, 1024KB flash, 320KB RAM, 120 MHz, 1.71-3.6V, 110 GPIO, UFBGA132; ki_keywords: Arm Cortex-M4 STM32L4+ STM32L4P5/Q5; ki_fp_filters: UFBGA*7x7mm*Layout12x12*P0.5mm*; Footprint: Package_BGA:UFBGA-132_7x7mm_Layout12x12_P0.5mm; Datasheet: https://www.st.com/resource/en/datasheet/stm32l4q5qg.pdf; Description_: STMicroelectronics Arm Cortex-M4 MCU, 1024KB flash, 320KB RAM, 120 MHz, 1.71-3.6V, 110 GPIO, UFBGA132
pins: A1 PE3, A2 PE1, A3 PB8, A4 PH3, A5 PD7, A6 PD5, A7 PB4, A8 PB3, A9 PA15, A10 PA14, A11 PA13, A12 PA12, B1 PE4, B2 PE2, B3 PB9, B4 PB7, B5 PB6, B6 PD6, B7 PD4, B8 PD3, B9 PD1, B10 PC12, B11 PC10, B12 PA11, C1 PC13, C2 PE5, C3 PE0, C4 VDD, C5 PB5, C6 PG14, C7 PG13, C8 PD2, C9 PD0, C10 PC11, C11 VDDUSB, C12 PA10, D1 PC14, D2 PE6, D3 VSS, D4 PF2, D5 PF1, D6 PF0, D7 PG12, D8 PG10, D9 PG9, D10 PA9, D11 PA8, D12 PC9, E1 PC15, E2 VBAT, E3 VSS, E4 PF3, E9 PG5, E10 PC8, E11 PC7, E12 PC6, F1 PH0, F2 VSS, F3 PF4, F4 PF5, F6 VSS, F7 VSS, F9 PG3, F10 PG4, F11 VSS, F12 VSS, G1 PH1, G2 VDD, G3 PG11, G4 PG6, G6 VDD, G7 VDDIO2, G9 PG1, G10 PG2, G11 VDD, G12 VDD, H1 PC0, H2 NRST, H3 VDD, H4 PG7, H9 PG0, H10 PD15, H11 PD14, H12 PD13, J1 VSSA, J2 PC1, J3 PC2, J4 PA4, J5 PA7, J6 PG8, J7 PF12, J8 PF14, J9 PF15, J10 PD12, J11 PD11, J12 PD10, K1 PG15, K2 PC3, K3 PA2, K4 PA5, K5 PC4, K6 PF11, K7 PF13, K8 PD9, K9 PD8, K10 PB15, K11 PB14, K12 PB13, L1 VREF+, L2 PA0, L3 PA3, L4 PA6, L5 PC5, L6 PB2, L7 PE8, L8 PE10, L9 PE12, L10 PB10, L11 PB11, L12 PB12, M1 VDDA, M2 PA1, M3 OPAMP1_VINM, M4 OPAMP2_VINM, M5 PB0, M6 PB1, M7 PE7, M8 PE9, M9 PE11, M10 PE13, M11 PE14, M12 PE15

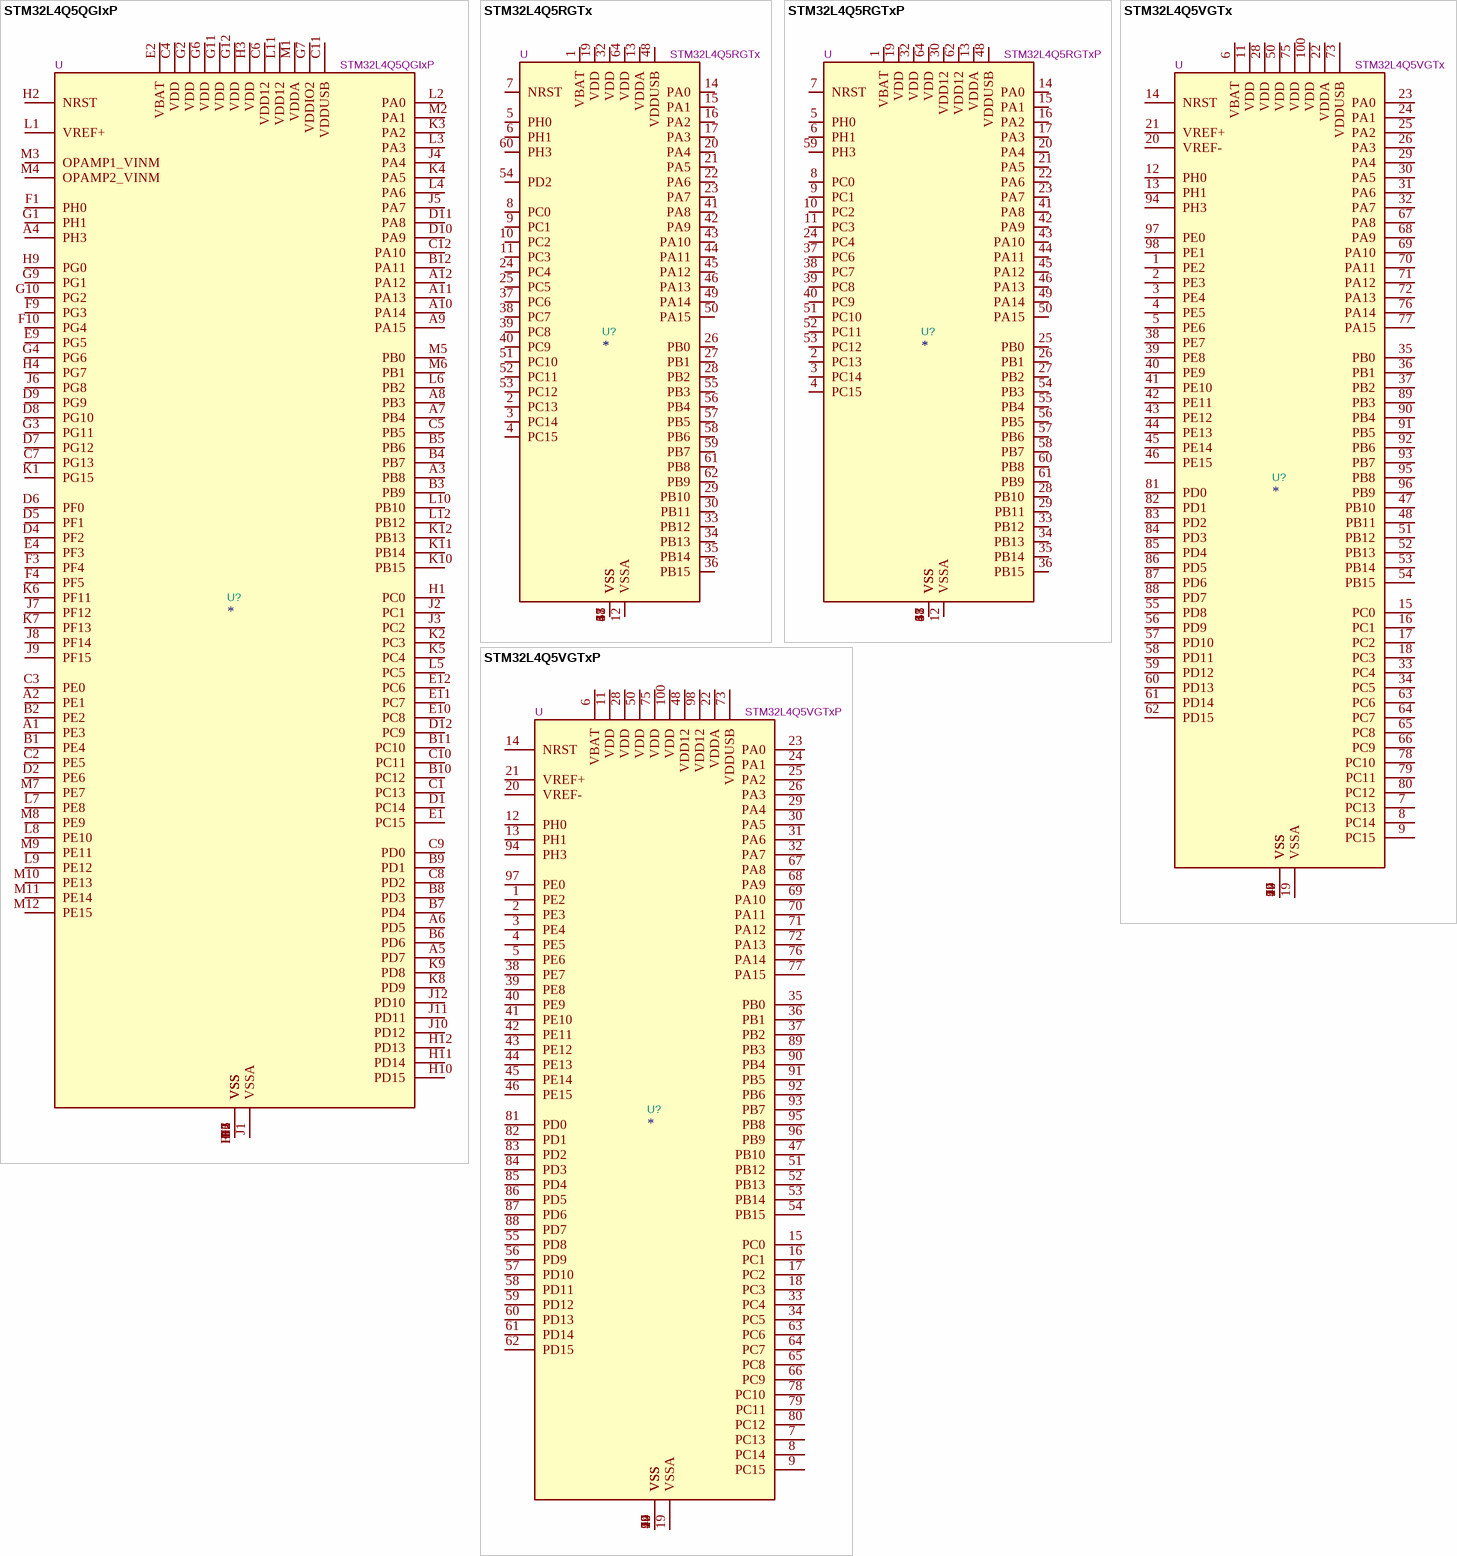
[diagram p13: symbols STM32L4Q5QGIxP to STM32L4Q5VGTxP]

## STM32L4Q5QGIxP
designator U?  value STM32L4Q5QGIxP  Reference: U
STMicroelectronics Arm Cortex-M4 MCU, 1024KB flash, 320KB RAM, 120 MHz, 1.71-3.6V, 108 GPIO, UFBGA132; ki_keywords: Arm Cortex-M4 STM32L4+ STM32L4P5/Q5; ki_fp_filters: UFBGA*7x7mm*Layout12x12*P0.5mm*; Footprint: Package_BGA:UFBGA-132_7x7mm_Layout12x12_P0.5mm; Datasheet: https://www.st.com/resource/en/datasheet/stm32l4q5qg.pdf; Description_: STMicroelectronics Arm Cortex-M4 MCU, 1024KB flash, 320KB RAM, 120 MHz, 1.71-3.6V, 108 GPIO, UFBGA132
pins: A1 PE3, A2 PE1, A3 PB8, A4 PH3, A5 PD7, A6 PD5, A7 PB4, A8 PB3, A9 PA15, A10 PA14, A11 PA13, A12 PA12, B1 PE4, B2 PE2, B3 PB9, B4 PB7, B5 PB6, B6 PD6, B7 PD4, B8 PD3, B9 PD1, B10 PC12, B11 PC10, B12 PA11, C1 PC13, C2 PE5, C3 PE0, C4 VDD, C5 PB5, C6 VDD12, C7 PG13, C8 PD2, C9 PD0, C10 PC11, C11 VDDUSB, C12 PA10, D1 PC14, D2 PE6, D3 VSS, D4 PF2, D5 PF1, D6 PF0, D7 PG12, D8 PG10, D9 PG9, D10 PA9, D11 PA8, D12 PC9, E1 PC15, E2 VBAT, E3 VSS, E4 PF3, E9 PG5, E10 PC8, E11 PC7, E12 PC6, F1 PH0, F2 VSS, F3 PF4, F4 PF5, F6 VSS, F7 VSS, F9 PG3, F10 PG4, F11 VSS, F12 VSS, G1 PH1, G2 VDD, G3 PG11, G4 PG6, G6 VDD, G7 VDDIO2, G9 PG1, G10 PG2, G11 VDD, G12 VDD, H1 PC0, H2 NRST, H3 VDD, H4 PG7, H9 PG0, H10 PD15, H11 PD14, H12 PD13, J1 VSSA, J2 PC1, J3 PC2, J4 PA4, J5 PA7, J6 PG8, J7 PF12, J8 PF14, J9 PF15, J10 PD12, J11 PD11, J12 PD10, K1 PG15, K2 PC3, K3 PA2, K4 PA5, K5 PC4, K6 PF11, K7 PF13, K8 PD9, K9 PD8, K10 PB15, K11 PB14, K12 PB13, L1 VREF+, L2 PA0, L3 PA3, L4 PA6, L5 PC5, L6 PB2, L7 PE8, L8 PE10, L9 PE12, L10 PB10, L11 VDD12, L12 PB12, M1 VDDA, M2 PA1, M3 OPAMP1_VINM, M4 OPAMP2_VINM, M5 PB0, M6 PB1, M7 PE7, M8 PE9, M9 PE11, M10 PE13, M11 PE14, M12 PE15

## STM32L4Q5RGTx
designator U?  value STM32L4Q5RGTx  Reference: U
STMicroelectronics Arm Cortex-M4 MCU, 1024KB flash, 320KB RAM, 120 MHz, 1.71-3.6V, 52 GPIO, LQFP64; ki_keywords: Arm Cortex-M4 STM32L4+ STM32L4P5/Q5; ki_fp_filters: LQFP*10x10mm*P0.5mm*; Footprint: Package_QFP:LQFP-64_10x10mm_P0.5mm; Datasheet: https://www.st.com/resource/en/datasheet/stm32l4q5rg.pdf; Description_: STMicroelectronics Arm Cortex-M4 MCU, 1024KB flash, 320KB RAM, 120 MHz, 1.71-3.6V, 52 GPIO, LQFP64
pins: 1 VBAT, 2 PC13, 3 PC14, 4 PC15, 5 PH0, 6 PH1, 7 NRST, 8 PC0, 9 PC1, 10 PC2, 11 PC3, 12 VSSA, 13 VDDA, 14 PA0, 15 PA1, 16 PA2, 17 PA3, 18 VSS, 19 VDD, 20 PA4, 21 PA5, 22 PA6, 23 PA7, 24 PC4, 25 PC5, 26 PB0, 27 PB1, 28 PB2, 29 PB10, 30 PB11, 31 VSS, 32 VDD, 33 PB12, 34 PB13, 35 PB14, 36 PB15, 37 PC6, 38 PC7, 39 PC8, 40 PC9, 41 PA8, 42 PA9, 43 PA10, 44 PA11, 45 PA12, 46 PA13, 47 VSS, 48 VDDUSB, 49 PA14, 50 PA15, 51 PC10, 52 PC11, 53 PC12, 54 PD2, 55 PB3, 56 PB4, 57 PB5, 58 PB6, 59 PB7, 60 PH3, 61 PB8, 62 PB9, 63 VSS, 64 VDD

## STM32L4Q5RGTxP
designator U?  value STM32L4Q5RGTxP  Reference: U
STMicroelectronics Arm Cortex-M4 MCU, 1024KB flash, 320KB RAM, 120 MHz, 1.71-3.6V, 50 GPIO, LQFP64; ki_keywords: Arm Cortex-M4 STM32L4+ STM32L4P5/Q5; ki_fp_filters: LQFP*10x10mm*P0.5mm*; Footprint: Package_QFP:LQFP-64_10x10mm_P0.5mm; Datasheet: https://www.st.com/resource/en/datasheet/stm32l4q5rg.pdf; Description_: STMicroelectronics Arm Cortex-M4 MCU, 1024KB flash, 320KB RAM, 120 MHz, 1.71-3.6V, 50 GPIO, LQFP64
pins: 1 VBAT, 2 PC13, 3 PC14, 4 PC15, 5 PH0, 6 PH1, 7 NRST, 8 PC0, 9 PC1, 10 PC2, 11 PC3, 12 VSSA, 13 VDDA, 14 PA0, 15 PA1, 16 PA2, 17 PA3, 18 VSS, 19 VDD, 20 PA4, 21 PA5, 22 PA6, 23 PA7, 24 PC4, 25 PB0, 26 PB1, 27 PB2, 28 PB10, 29 PB11, 30 VDD12, 31 VSS, 32 VDD, 33 PB12, 34 PB13, 35 PB14, 36 PB15, 37 PC6, 38 PC7, 39 PC8, 40 PC9, 41 PA8, 42 PA9, 43 PA10, 44 PA11, 45 PA12, 46 PA13, 47 VSS, 48 VDDUSB, 49 PA14, 50 PA15, 51 PC10, 52 PC11, 53 PC12, 54 PB3, 55 PB4, 56 PB5, 57 PB6, 58 PB7, 59 PH3, 60 PB8, 61 PB9, 62 VDD12, 63 VSS, 64 VDD

## STM32L4Q5VGTx
designator U?  value STM32L4Q5VGTx  Reference: U
STMicroelectronics Arm Cortex-M4 MCU, 1024KB flash, 320KB RAM, 120 MHz, 1.71-3.6V, 83 GPIO, LQFP100; ki_keywords: Arm Cortex-M4 STM32L4+ STM32L4P5/Q5; ki_fp_filters: LQFP*14x14mm*P0.5mm*; Footprint: Package_QFP:LQFP-100_14x14mm_P0.5mm; Datasheet: https://www.st.com/resource/en/datasheet/stm32l4q5vg.pdf; Description_: STMicroelectronics Arm Cortex-M4 MCU, 1024KB flash, 320KB RAM, 120 MHz, 1.71-3.6V, 83 GPIO, LQFP100
pins: 1 PE2, 2 PE3, 3 PE4, 4 PE5, 5 PE6, 6 VBAT, 7 PC13, 8 PC14, 9 PC15, 10 VSS, 11 VDD, 12 PH0, 13 PH1, 14 NRST, 15 PC0, 16 PC1, 17 PC2, 18 PC3, 19 VSSA, 20 VREF-, 21 VREF+, 22 VDDA, 23 PA0, 24 PA1, 25 PA2, 26 PA3, 27 VSS, 28 VDD, 29 PA4, 30 PA5, 31 PA6, 32 PA7, 33 PC4, 34 PC5, 35 PB0, 36 PB1, 37 PB2, 38 PE7, 39 PE8, 40 PE9, 41 PE10, 42 PE11, 43 PE12, 44 PE13, 45 PE14, 46 PE15, 47 PB10, 48 PB11, 49 VSS, 50 VDD, 51 PB12, 52 PB13, 53 PB14, 54 PB15, 55 PD8, 56 PD9, 57 PD10, 58 PD11, 59 PD12, 60 PD13, 61 PD14, 62 PD15, 63 PC6, 64 PC7, 65 PC8, 66 PC9, 67 PA8, 68 PA9, 69 PA10, 70 PA11, 71 PA12, 72 PA13, 73 VDDUSB, 74 VSS, 75 VDD, 76 PA14, 77 PA15, 78 PC10, 79 PC11, 80 PC12, 81 PD0, 82 PD1, 83 PD2, 84 PD3, 85 PD4, 86 PD5, 87 PD6, 88 PD7, 89 PB3, 90 PB4, 91 PB5, 92 PB6, 93 PB7, 94 PH3, 95 PB8, 96 PB9, 97 PE0, 98 PE1, 99 VSS, 100 VDD

## STM32L4Q5VGTxP
designator U?  value STM32L4Q5VGTxP  Reference: U
STMicroelectronics Arm Cortex-M4 MCU, 1024KB flash, 320KB RAM, 120 MHz, 1.71-3.6V, 81 GPIO, LQFP100; ki_keywords: Arm Cortex-M4 STM32L4+ STM32L4P5/Q5; ki_fp_filters: LQFP*14x14mm*P0.5mm*; Footprint: Package_QFP:LQFP-100_14x14mm_P0.5mm; Datasheet: https://www.st.com/resource/en/datasheet/stm32l4q5vg.pdf; Description_: STMicroelectronics Arm Cortex-M4 MCU, 1024KB flash, 320KB RAM, 120 MHz, 1.71-3.6V, 81 GPIO, LQFP100
pins: 1 PE2, 2 PE3, 3 PE4, 4 PE5, 5 PE6, 6 VBAT, 7 PC13, 8 PC14, 9 PC15, 10 VSS, 11 VDD, 12 PH0, 13 PH1, 14 NRST, 15 PC0, 16 PC1, 17 PC2, 18 PC3, 19 VSSA, 20 VREF-, 21 VREF+, 22 VDDA, 23 PA0, 24 PA1, 25 PA2, 26 PA3, 27 VSS, 28 VDD, 29 PA4, 30 PA5, 31 PA6, 32 PA7, 33 PC4, 34 PC5, 35 PB0, 36 PB1, 37 PB2, 38 PE7, 39 PE8, 40 PE9, 41 PE10, 42 PE11, 43 PE12, 44 PE13, 45 PE14, 46 PE15, 47 PB10, 48 VDD12, 49 VSS, 50 VDD, 51 PB12, 52 PB13, 53 PB14, 54 PB15, 55 PD8, 56 PD9, 57 PD10, 58 PD11, 59 PD12, 60 PD13, 61 PD14, 62 PD15, 63 PC6, 64 PC7, 65 PC8, 66 PC9, 67 PA8, 68 PA9, 69 PA10, 70 PA11, 71 PA12, 72 PA13, 73 VDDUSB, 74 VSS, 75 VDD, 76 PA14, 77 PA15, 78 PC10, 79 PC11, 80 PC12, 81 PD0, 82 PD1, 83 PD2, 84 PD3, 85 PD4, 86 PD5, 87 PD6, 88 PD7, 89 PB3, 90 PB4, 91 PB5, 92 PB6, 93 PB7, 94 PH3, 95 PB8, 96 PB9, 97 PE0, 98 VDD12, 99 VSS, 100 VDD

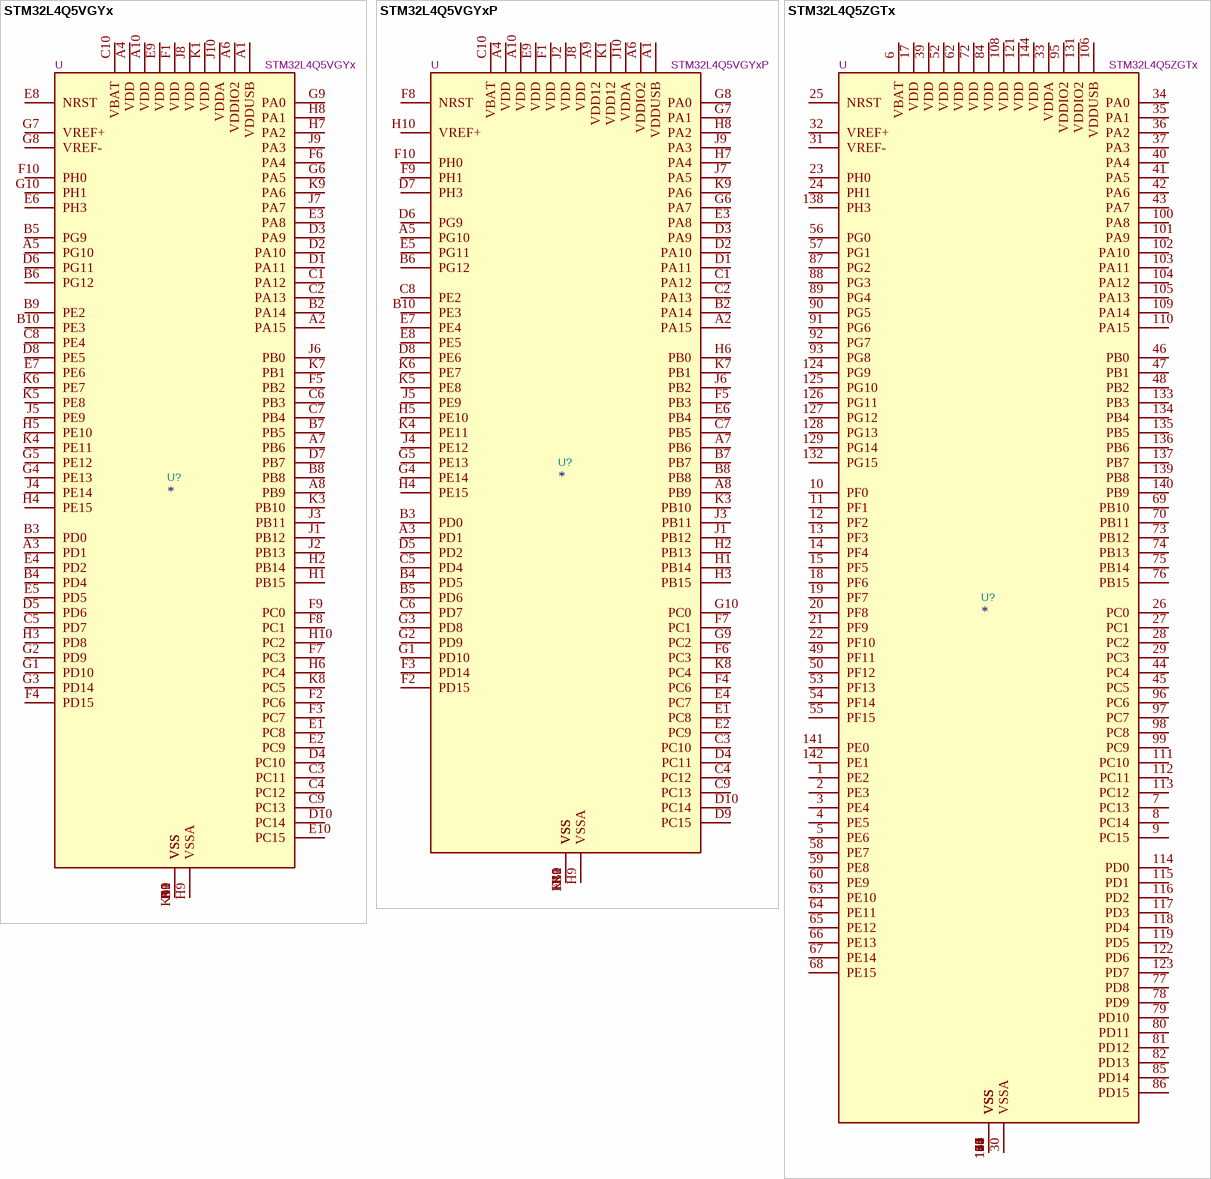
[diagram p14: symbols STM32L4Q5VGYx to STM32L4Q5ZGTx]

## STM32L4Q5VGYx
designator U?  value STM32L4Q5VGYx  Reference: U
STMicroelectronics Arm Cortex-M4 MCU, 1024KB flash, 320KB RAM, 120 MHz, 1.71-3.6V, 81 GPIO, WLCSP100; ki_keywords: Arm Cortex-M4 STM32L4+ STM32L4P5/Q5; ki_fp_filters: ST*WLCSP*4.437x4.456mm*Layout10x10*P0.4mm*; Footprint: Package_CSP:ST_WLCSP-100_4.437x4.456mm_Layout10x10_P0.4mm; Datasheet: https://www.st.com/resource/en/datasheet/stm32l4q5vg.pdf; Description_: STMicroelectronics Arm Cortex-M4 MCU, 1024KB flash, 320KB RAM, 120 MHz, 1.71-3.6V, 81 GPIO, WLCSP100
pins: A1 VDDUSB, A2 PA15, A3 PD1, A4 VDD, A5 PG10, A6 VDDIO2, A7 PB6, A8 PB9, A9 VSS, A10 VDD, B1 VSS, B2 PA14, B3 PD0, B4 PD4, B5 PG9, B6 PG12, B7 PB5, B8 PB8, B9 PE2, B10 PE3, C1 PA12, C2 PA13, C3 PC11, C4 PC12, C5 PD7, C6 PB3, C7 PB4, C8 PE4, C9 PC13, C10 VBAT, D1 PA11, D2 PA10, D3 PA9, D4 PC10, D5 PD6, D6 PG11, D7 PB7, D8 PE5, D9 VSS, D10 PC14, E1 PC8, E2 PC9, E3 PA8, E4 PD2, E5 PD5, E6 PH3, E7 PE6, E8 NRST, E9 VDD, E10 PC15, F1 VDD, F2 PC6, F3 PC7, F4 PD15, F5 PB2, F6 PA4, F7 PC3, F8 PC1, F9 PC0, F10 PH0, G1 PD10, G2 PD9, G3 PD14, G4 PE13, G5 PE12, G6 PA5, G7 VREF+, G8 VREF-, G9 PA0, G10 PH1, H1 PB15, H2 PB14, H3 PD8, H4 PE15, H5 PE10, H6 PC4, H7 PA2, H8 PA1, H9 VSSA, H10 PC2, J1 PB12, J2 PB13, J3 PB11, J4 PE14, J5 PE9, J6 PB0, J7 PA7, J8 VDD, J9 PA3, J10 VDDA, K1 VDD, K2 VSS, K3 PB10, K4 PE11, K5 PE8, K6 PE7, K7 PB1, K8 PC5, K9 PA6, K10 VSS

## STM32L4Q5VGYxP
designator U?  value STM32L4Q5VGYxP  Reference: U
STMicroelectronics Arm Cortex-M4 MCU, 1024KB flash, 320KB RAM, 120 MHz, 1.71-3.6V, 80 GPIO, WLCSP100; ki_keywords: Arm Cortex-M4 STM32L4+ STM32L4P5/Q5; ki_fp_filters: ST*WLCSP*4.437x4.456mm*Layout10x10*P0.4mm*; Footprint: Package_CSP:ST_WLCSP-100_4.437x4.456mm_Layout10x10_P0.4mm; Datasheet: https://www.st.com/resource/en/datasheet/stm32l4q5vg.pdf; Description_: STMicroelectronics Arm Cortex-M4 MCU, 1024KB flash, 320KB RAM, 120 MHz, 1.71-3.6V, 80 GPIO, WLCSP100
pins: A1 VDDUSB, A2 PA15, A3 PD1, A4 VDD, A5 PG10, A6 VDDIO2, A7 PB6, A8 PB9, A9 VDD12, A10 VDD, B1 VSS, B2 PA14, B3 PD0, B4 PD5, B5 PD6, B6 PG12, B7 PB7, B8 PB8, B9 VSS, B10 PE3, C1 PA12, C2 PA13, C3 PC10, C4 PC12, C5 PD4, C6 PD7, C7 PB5, C8 PE2, C9 PC13, C10 VBAT, D1 PA11, D2 PA10, D3 PA9, D4 PC11, D5 PD2, D6 PG9, D7 PH3, D8 PE6, D9 PC15, D10 PC14, E1 PC8, E2 PC9, E3 PA8, E4 PC7, E5 PG11, E6 PB4, E7 PE4, E8 PE5, E9 VDD, E10 VSS, F1 VDD, F2 PD15, F3 PD14, F4 PC6, F5 PB3, F6 PC3, F7 PC1, F8 NRST, F9 PH1, F10 PH0, G1 PD10, G2 PD9, G3 PD8, G4 PE14, G5 PE13, G6 PA7, G7 PA1, G8 PA0, G9 PC2, G10 PC0, H1 PB14, H2 PB13, H3 PB15, H4 PE15, H5 PE10, H6 PB0, H7 PA4, H8 PA2, H9 VSSA, H10 VREF+, J1 PB12, J2 VDD, J3 PB11, J4 PE12, J5 PE9, J6 PB2, J7 PA5, J8 VDD, J9 PA3, J10 VDDA, K1 VDD12, K2 VSS, K3 PB10, K4 PE11, K5 PE8, K6 PE7, K7 PB1, K8 PC4, K9 PA6, K10 VSS

## STM32L4Q5ZGTx
designator U?  value STM32L4Q5ZGTx  Reference: U
STMicroelectronics Arm Cortex-M4 MCU, 1024KB flash, 320KB RAM, 120 MHz, 1.71-3.6V, 115 GPIO, LQFP144; ki_keywords: Arm Cortex-M4 STM32L4+ STM32L4P5/Q5; ki_fp_filters: LQFP*20x20mm*P0.5mm*; Footprint: Package_QFP:LQFP-144_20x20mm_P0.5mm; Datasheet: https://www.st.com/resource/en/datasheet/stm32l4q5zg.pdf; Description_: STMicroelectronics Arm Cortex-M4 MCU, 1024KB flash, 320KB RAM, 120 MHz, 1.71-3.6V, 115 GPIO, LQFP144
pins: 1 PE2, 2 PE3, 3 PE4, 4 PE5, 5 PE6, 6 VBAT, 7 PC13, 8 PC14, 9 PC15, 10 PF0, 11 PF1, 12 PF2, 13 PF3, 14 PF4, 15 PF5, 16 VSS, 17 VDD, 18 PF6, 19 PF7, 20 PF8, 21 PF9, 22 PF10, 23 PH0, 24 PH1, 25 NRST, 26 PC0, 27 PC1, 28 PC2, 29 PC3, 30 VSSA, 31 VREF-, 32 VREF+, 33 VDDA, 34 PA0, 35 PA1, 36 PA2, 37 PA3, 38 VSS, 39 VDD, 40 PA4, 41 PA5, 42 PA6, 43 PA7, 44 PC4, 45 PC5, 46 PB0, 47 PB1, 48 PB2, 49 PF11, 50 PF12, 51 VSS, 52 VDD, 53 PF13, 54 PF14, 55 PF15, 56 PG0, 57 PG1, 58 PE7, 59 PE8, 60 PE9, 61 VSS, 62 VDD, 63 PE10, 64 PE11, 65 PE12, 66 PE13, 67 PE14, 68 PE15, 69 PB10, 70 PB11, 71 VSS, 72 VDD, 73 PB12, 74 PB13, 75 PB14, 76 PB15, 77 PD8, 78 PD9, 79 PD10, 80 PD11, 81 PD12, 82 PD13, 83 VSS, 84 VDD, 85 PD14, 86 PD15, 87 PG2, 88 PG3, 89 PG4, 90 PG5, 91 PG6, 92 PG7, 93 PG8, 94 VSS, 95 VDDIO2, 96 PC6, 97 PC7, 98 PC8, 99 PC9, 100 PA8, 101 PA9, 102 PA10, 103 PA11, 104 PA12, 105 PA13, 106 VDDUSB, 107 VSS, 108 VDD, 109 PA14, 110 PA15, 111 PC10, 112 PC11, 113 PC12, 114 PD0, 115 PD1, 116 PD2, 117 PD3, 118 PD4, 119 PD5, 120 VSS, 121 VDD, 122 PD6, 123 PD7, 124 PG9, 125 PG10, 126 PG11, 127 PG12, 128 PG13, 129 PG14, 130 VSS, 131 VDDIO2, 132 PG15, 133 PB3, 134 PB4, 135 PB5, 136 PB6, 137 PB7, 138 PH3, 139 PB8, 140 PB9, 141 PE0, 142 PE1, 143 VSS, 144 VDD

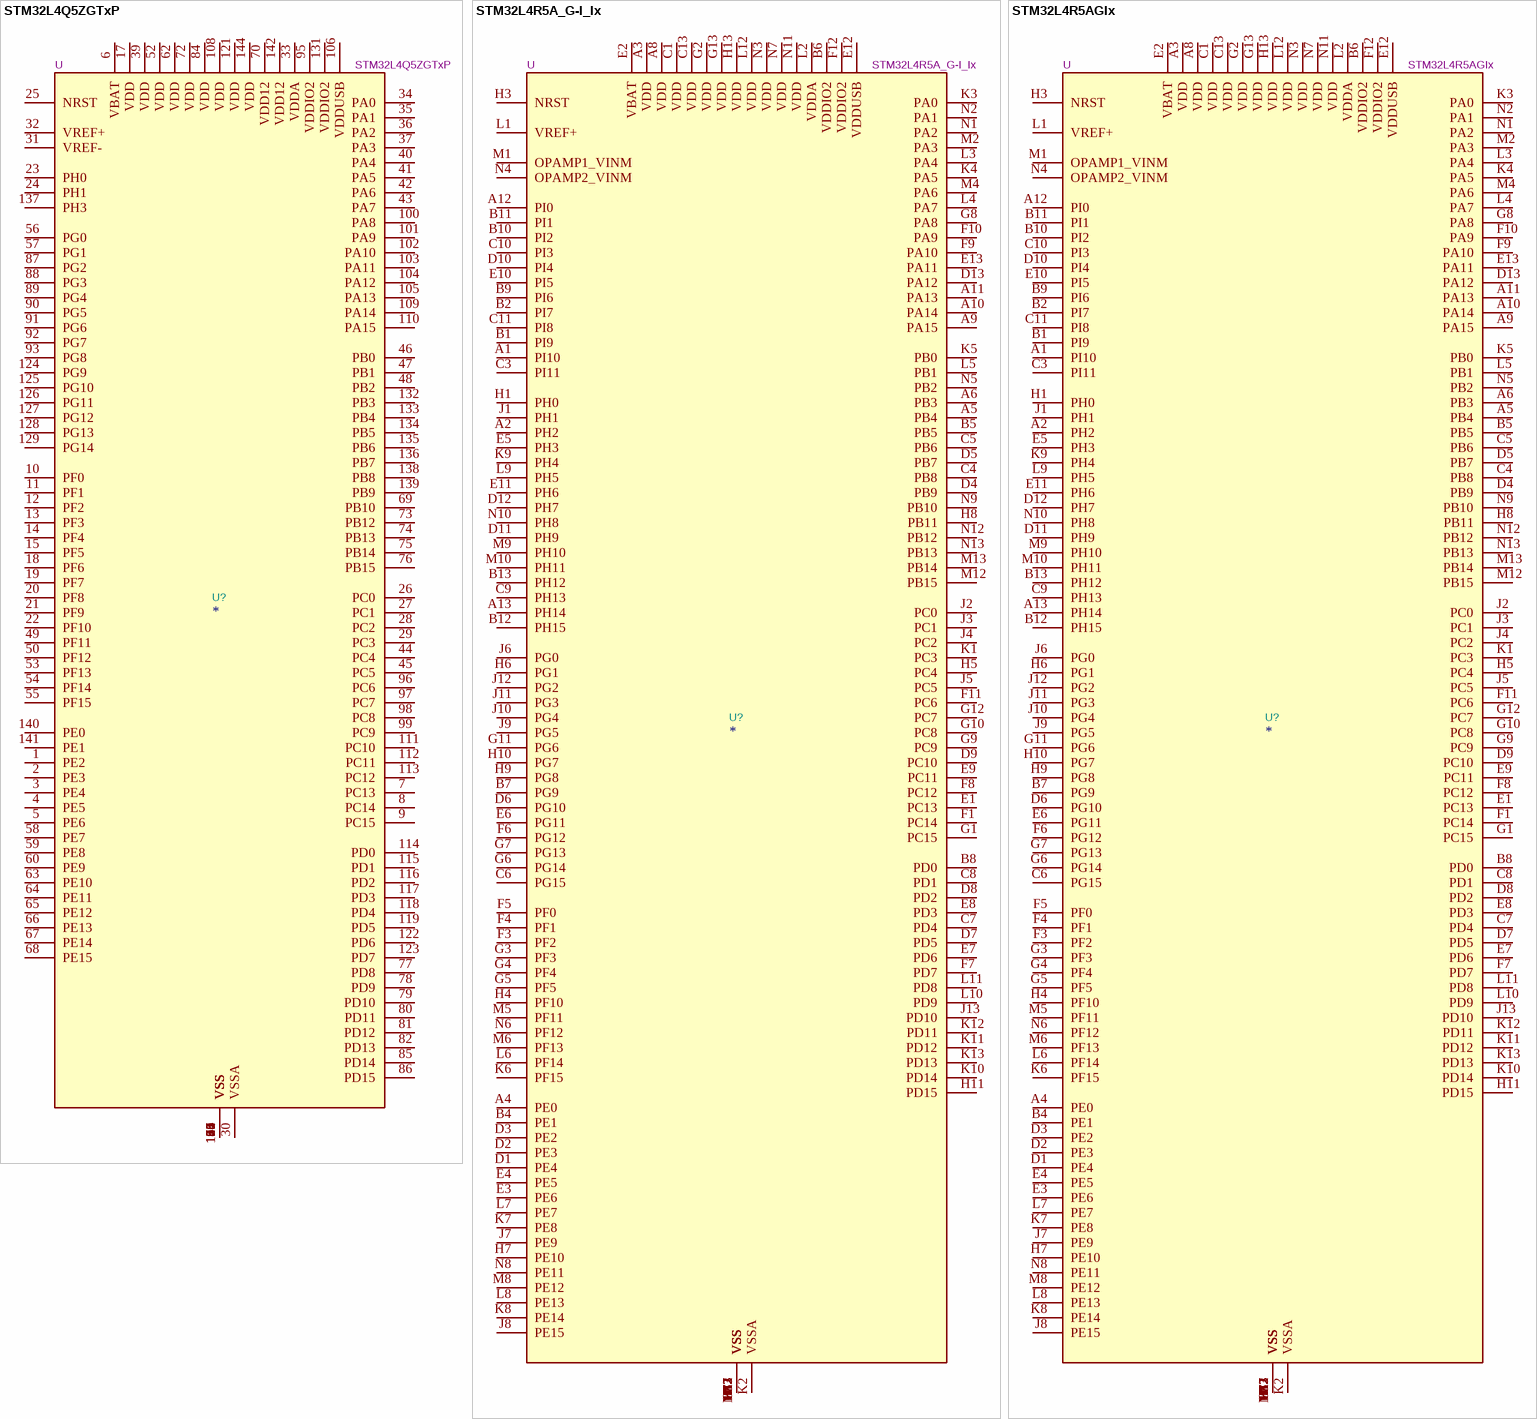
[diagram p15: symbols STM32L4Q5ZGTxP to STM32L4R5AGIx]

## STM32L4Q5ZGTxP
designator U?  value STM32L4Q5ZGTxP  Reference: U
STMicroelectronics Arm Cortex-M4 MCU, 1024KB flash, 320KB RAM, 120 MHz, 1.71-3.6V, 113 GPIO, LQFP144; ki_keywords: Arm Cortex-M4 STM32L4+ STM32L4P5/Q5; ki_fp_filters: LQFP*20x20mm*P0.5mm*; Footprint: Package_QFP:LQFP-144_20x20mm_P0.5mm; Datasheet: https://www.st.com/resource/en/datasheet/stm32l4q5zg.pdf; Description_: STMicroelectronics Arm Cortex-M4 MCU, 1024KB flash, 320KB RAM, 120 MHz, 1.71-3.6V, 113 GPIO, LQFP144
pins: 1 PE2, 2 PE3, 3 PE4, 4 PE5, 5 PE6, 6 VBAT, 7 PC13, 8 PC14, 9 PC15, 10 PF0, 11 PF1, 12 PF2, 13 PF3, 14 PF4, 15 PF5, 16 VSS, 17 VDD, 18 PF6, 19 PF7, 20 PF8, 21 PF9, 22 PF10, 23 PH0, 24 PH1, 25 NRST, 26 PC0, 27 PC1, 28 PC2, 29 PC3, 30 VSSA, 31 VREF-, 32 VREF+, 33 VDDA, 34 PA0, 35 PA1, 36 PA2, 37 PA3, 38 VSS, 39 VDD, 40 PA4, 41 PA5, 42 PA6, 43 PA7, 44 PC4, 45 PC5, 46 PB0, 47 PB1, 48 PB2, 49 PF11, 50 PF12, 51 VSS, 52 VDD, 53 PF13, 54 PF14, 55 PF15, 56 PG0, 57 PG1, 58 PE7, 59 PE8, 60 PE9, 61 VSS, 62 VDD, 63 PE10, 64 PE11, 65 PE12, 66 PE13, 67 PE14, 68 PE15, 69 PB10, 70 VDD12, 71 VSS, 72 VDD, 73 PB12, 74 PB13, 75 PB14, 76 PB15, 77 PD8, 78 PD9, 79 PD10, 80 PD11, 81 PD12, 82 PD13, 83 VSS, 84 VDD, 85 PD14, 86 PD15, 87 PG2, 88 PG3, 89 PG4, 90 PG5, 91 PG6, 92 PG7, 93 PG8, 94 VSS, 95 VDDIO2, 96 PC6, 97 PC7, 98 PC8, 99 PC9, 100 PA8, 101 PA9, 102 PA10, 103 PA11, 104 PA12, 105 PA13, 106 VDDUSB, 107 VSS, 108 VDD, 109 PA14, 110 PA15, 111 PC10, 112 PC11, 113 PC12, 114 PD0, 115 PD1, 116 PD2, 117 PD3, 118 PD4, 119 PD5, 120 VSS, 121 VDD, 122 PD6, 123 PD7, 124 PG9, 125 PG10, 126 PG11, 127 PG12, 128 PG13, 129 PG14, 130 VSS, 131 VDDIO2, 132 PB3, 133 PB4, 134 PB5, 135 PB6, 136 PB7, 137 PH3, 138 PB8, 139 PB9, 140 PE0, 141 PE1, 142 VDD12, 143 VSS, 144 VDD

## STM32L4R5A_G-I_Ix
designator U?  value STM32L4R5A_G-I_Ix  Reference: U
STMicroelectronics Arm Cortex-M4 MCU, 1024-2048KB flash, 640KB RAM, 120 MHz, 1.71-3.6V, 136 GPIO, UFBGA169; ki_keywords: Arm Cortex-M4 STM32L4+ STM32L4R5/S5; ki_fp_filters: UFBGA*7x7mm*Layout13x13*P0.5mm*; Footprint: Package_BGA:UFBGA-169_7x7mm_Layout13x13_P0.5mm; Datasheet: https://www.st.com/resource/en/datasheet/stm32l4r5ag.pdf; Description_: STMicroelectronics Arm Cortex-M4 MCU, 1024-2048KB flash, 640KB RAM, 120 MHz, 1.71-3.6V, 136 GPIO, UFBGA169
pins: A1 PI10, A2 PH2, A3 VDD, A4 PE0, A5 PB4, A6 PB3, A7 VSS, A8 VDD, A9 PA15, A10 PA14, A11 PA13, A12 PI0, A13 PH14, B1 PI9, B2 PI7, B3 VSS, B4 PE1, B5 PB5, B6 VDDIO2, B7 PG9, B8 PD0, B9 PI6, B10 PI2, B11 PI1, B12 PH15, B13 PH12, C1 VDD, C2 VSS, C3 PI11, C4 PB8, C5 PB6, C6 PG15, C7 PD4, C8 PD1, C9 PH13, C10 PI3, C11 PI8, C12 VSS, C13 VDD, D1 PE4, D2 PE3, D3 PE2, D4 PB9, D5 PB7, D6 PG10, D7 PD5, D8 PD2, D9 PC10, D10 PI4, D11 PH9, D12 PH7, D13 PA12, E1 PC13, E2 VBAT, E3 PE6, E4 PE5, E5 PH3, E6 PG11, E7 PD6, E8 PD3, E9 PC11, E10 PI5, E11 PH6, E12 VDDUSB, E13 PA11, F1 PC14, F2 VSS, F3 PF2, F4 PF1, F5 PF0, F6 PG12, F7 PD7, F8 PC12, F9 PA10, F10 PA9, F11 PC6, F12 VDDIO2, F13 VSS, G1 PC15, G2 VDD, G3 PF3, G4 PF4, G5 PF5, G6 PG14, G7 PG13, G8 PA8, G9 PC9, G10 PC8, G11 PG6, G12 PC7, G13 VDD, H1 PH0, H2 VSS, H3 NRST, H4 PF10, H5 PC4, H6 PG1, H7 PE10, H8 PB11, H9 PG8, H10 PG7, H11 PD15, H12 VSS, H13 VDD, J1 PH1, J2 PC0, J3 PC1, J4 PC2, J5 PC5, J6 PG0, J7 PE9, J8 PE15, J9 PG5, J10 PG4, J11 PG3, J12 PG2, J13 PD10, K1 PC3, K2 VSSA, K3 PA0, K4 PA5, K5 PB0, K6 PF15, K7 PE8, K8 PE14, K9 PH4, K10 PD14, K11 PD12, K12 PD11, K13 PD13, L1 VREF+, L2 VDDA, L3 PA4, L4 PA7, L5 PB1, L6 PF14, L7 PE7, L8 PE13, L9 PH5, L10 PD9, L11 PD8, L12 VDD, L13 VSS, M1 OPAMP1_VINM, M2 PA3, M3 VSS, M4 PA6, M5 PF11, M6 PF13, M7 VSS, M8 PE12, M9 PH10, M10 PH11, M11 VSS, M12 PB15, M13 PB14, N1 PA2, N2 PA1, N3 VDD, N4 OPAMP2_VINM, N5 PB2, N6 PF12, N7 VDD, N8 PE11, N9 PB10, N10 PH8, N11 VDD, N12 PB12, N13 PB13

## STM32L4R5AGIx
designator U?  value STM32L4R5AGIx  Reference: U
STMicroelectronics Arm Cortex-M4 MCU, 1024KB flash, 640KB RAM, 120 MHz, 1.71-3.6V, 136 GPIO, UFBGA169; ki_keywords: Arm Cortex-M4 STM32L4+ STM32L4R5/S5; ki_fp_filters: UFBGA*7x7mm*Layout13x13*P0.5mm*; Footprint: Package_BGA:UFBGA-169_7x7mm_Layout13x13_P0.5mm; Datasheet: https://www.st.com/resource/en/datasheet/stm32l4r5ag.pdf; Description_: STMicroelectronics Arm Cortex-M4 MCU, 1024KB flash, 640KB RAM, 120 MHz, 1.71-3.6V, 136 GPIO, UFBGA169
pins: A1 PI10, A2 PH2, A3 VDD, A4 PE0, A5 PB4, A6 PB3, A7 VSS, A8 VDD, A9 PA15, A10 PA14, A11 PA13, A12 PI0, A13 PH14, B1 PI9, B2 PI7, B3 VSS, B4 PE1, B5 PB5, B6 VDDIO2, B7 PG9, B8 PD0, B9 PI6, B10 PI2, B11 PI1, B12 PH15, B13 PH12, C1 VDD, C2 VSS, C3 PI11, C4 PB8, C5 PB6, C6 PG15, C7 PD4, C8 PD1, C9 PH13, C10 PI3, C11 PI8, C12 VSS, C13 VDD, D1 PE4, D2 PE3, D3 PE2, D4 PB9, D5 PB7, D6 PG10, D7 PD5, D8 PD2, D9 PC10, D10 PI4, D11 PH9, D12 PH7, D13 PA12, E1 PC13, E2 VBAT, E3 PE6, E4 PE5, E5 PH3, E6 PG11, E7 PD6, E8 PD3, E9 PC11, E10 PI5, E11 PH6, E12 VDDUSB, E13 PA11, F1 PC14, F2 VSS, F3 PF2, F4 PF1, F5 PF0, F6 PG12, F7 PD7, F8 PC12, F9 PA10, F10 PA9, F11 PC6, F12 VDDIO2, F13 VSS, G1 PC15, G2 VDD, G3 PF3, G4 PF4, G5 PF5, G6 PG14, G7 PG13, G8 PA8, G9 PC9, G10 PC8, G11 PG6, G12 PC7, G13 VDD, H1 PH0, H2 VSS, H3 NRST, H4 PF10, H5 PC4, H6 PG1, H7 PE10, H8 PB11, H9 PG8, H10 PG7, H11 PD15, H12 VSS, H13 VDD, J1 PH1, J2 PC0, J3 PC1, J4 PC2, J5 PC5, J6 PG0, J7 PE9, J8 PE15, J9 PG5, J10 PG4, J11 PG3, J12 PG2, J13 PD10, K1 PC3, K2 VSSA, K3 PA0, K4 PA5, K5 PB0, K6 PF15, K7 PE8, K8 PE14, K9 PH4, K10 PD14, K11 PD12, K12 PD11, K13 PD13, L1 VREF+, L2 VDDA, L3 PA4, L4 PA7, L5 PB1, L6 PF14, L7 PE7, L8 PE13, L9 PH5, L10 PD9, L11 PD8, L12 VDD, L13 VSS, M1 OPAMP1_VINM, M2 PA3, M3 VSS, M4 PA6, M5 PF11, M6 PF13, M7 VSS, M8 PE12, M9 PH10, M10 PH11, M11 VSS, M12 PB15, M13 PB14, N1 PA2, N2 PA1, N3 VDD, N4 OPAMP2_VINM, N5 PB2, N6 PF12, N7 VDD, N8 PE11, N9 PB10, N10 PH8, N11 VDD, N12 PB12, N13 PB13

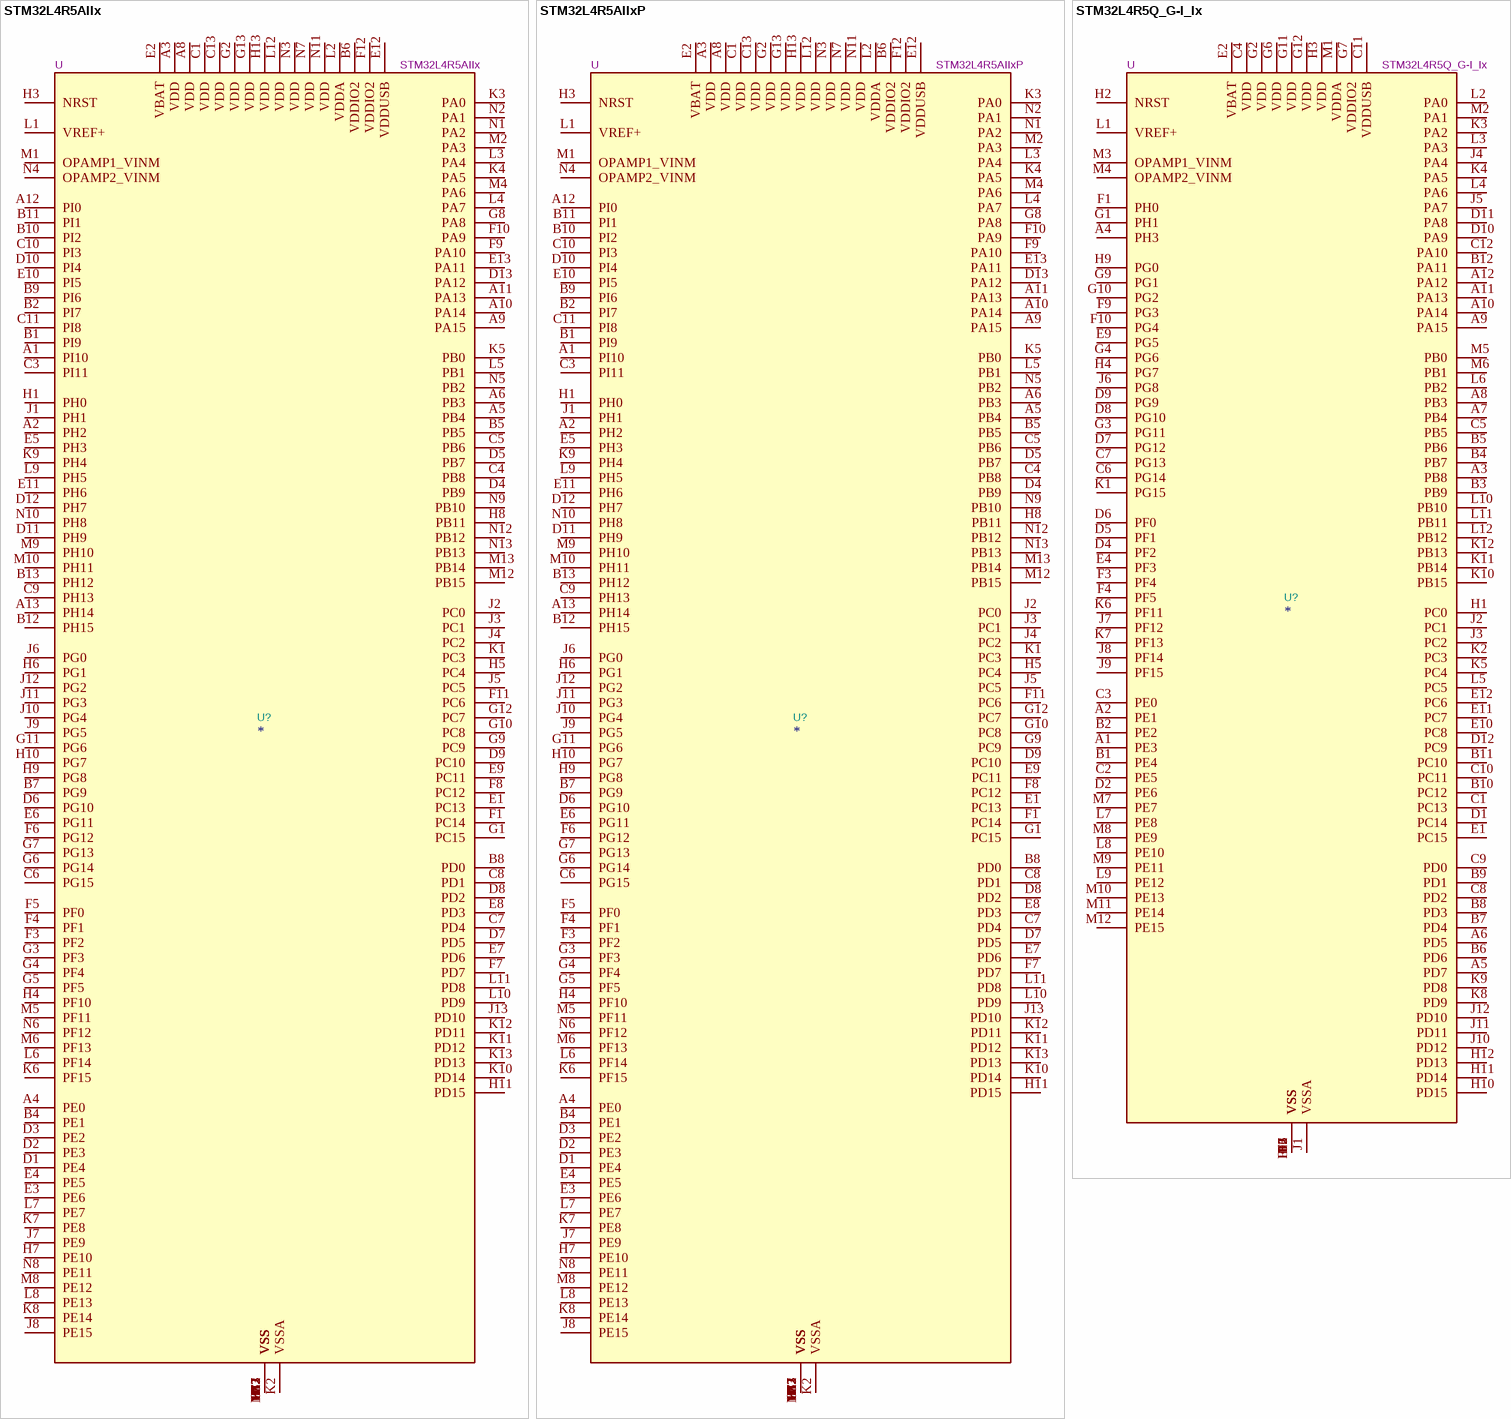
[diagram p16: symbols STM32L4R5AIIx to STM32L4R5Q_G-I_Ix]

## STM32L4R5AIIx
designator U?  value STM32L4R5AIIx  Reference: U
STMicroelectronics Arm Cortex-M4 MCU, 2048KB flash, 640KB RAM, 120 MHz, 1.71-3.6V, 136 GPIO, UFBGA169; ki_keywords: Arm Cortex-M4 STM32L4+ STM32L4R5/S5; ki_fp_filters: UFBGA*7x7mm*Layout13x13*P0.5mm*; Footprint: Package_BGA:UFBGA-169_7x7mm_Layout13x13_P0.5mm; Datasheet: https://www.st.com/resource/en/datasheet/stm32l4r5ai.pdf; Description_: STMicroelectronics Arm Cortex-M4 MCU, 2048KB flash, 640KB RAM, 120 MHz, 1.71-3.6V, 136 GPIO, UFBGA169
pins: A1 PI10, A2 PH2, A3 VDD, A4 PE0, A5 PB4, A6 PB3, A7 VSS, A8 VDD, A9 PA15, A10 PA14, A11 PA13, A12 PI0, A13 PH14, B1 PI9, B2 PI7, B3 VSS, B4 PE1, B5 PB5, B6 VDDIO2, B7 PG9, B8 PD0, B9 PI6, B10 PI2, B11 PI1, B12 PH15, B13 PH12, C1 VDD, C2 VSS, C3 PI11, C4 PB8, C5 PB6, C6 PG15, C7 PD4, C8 PD1, C9 PH13, C10 PI3, C11 PI8, C12 VSS, C13 VDD, D1 PE4, D2 PE3, D3 PE2, D4 PB9, D5 PB7, D6 PG10, D7 PD5, D8 PD2, D9 PC10, D10 PI4, D11 PH9, D12 PH7, D13 PA12, E1 PC13, E2 VBAT, E3 PE6, E4 PE5, E5 PH3, E6 PG11, E7 PD6, E8 PD3, E9 PC11, E10 PI5, E11 PH6, E12 VDDUSB, E13 PA11, F1 PC14, F2 VSS, F3 PF2, F4 PF1, F5 PF0, F6 PG12, F7 PD7, F8 PC12, F9 PA10, F10 PA9, F11 PC6, F12 VDDIO2, F13 VSS, G1 PC15, G2 VDD, G3 PF3, G4 PF4, G5 PF5, G6 PG14, G7 PG13, G8 PA8, G9 PC9, G10 PC8, G11 PG6, G12 PC7, G13 VDD, H1 PH0, H2 VSS, H3 NRST, H4 PF10, H5 PC4, H6 PG1, H7 PE10, H8 PB11, H9 PG8, H10 PG7, H11 PD15, H12 VSS, H13 VDD, J1 PH1, J2 PC0, J3 PC1, J4 PC2, J5 PC5, J6 PG0, J7 PE9, J8 PE15, J9 PG5, J10 PG4, J11 PG3, J12 PG2, J13 PD10, K1 PC3, K2 VSSA, K3 PA0, K4 PA5, K5 PB0, K6 PF15, K7 PE8, K8 PE14, K9 PH4, K10 PD14, K11 PD12, K12 PD11, K13 PD13, L1 VREF+, L2 VDDA, L3 PA4, L4 PA7, L5 PB1, L6 PF14, L7 PE7, L8 PE13, L9 PH5, L10 PD9, L11 PD8, L12 VDD, L13 VSS, M1 OPAMP1_VINM, M2 PA3, M3 VSS, M4 PA6, M5 PF11, M6 PF13, M7 VSS, M8 PE12, M9 PH10, M10 PH11, M11 VSS, M12 PB15, M13 PB14, N1 PA2, N2 PA1, N3 VDD, N4 OPAMP2_VINM, N5 PB2, N6 PF12, N7 VDD, N8 PE11, N9 PB10, N10 PH8, N11 VDD, N12 PB12, N13 PB13

## STM32L4R5AIIxP
designator U?  value STM32L4R5AIIxP  Reference: U
STMicroelectronics Arm Cortex-M4 MCU, 2048KB flash, 640KB RAM, 120 MHz, 1.71-3.6V, 136 GPIO, UFBGA169; ki_keywords: Arm Cortex-M4 STM32L4+ STM32L4R5/S5; ki_fp_filters: UFBGA*7x7mm*Layout13x13*P0.5mm*; Footprint: Package_BGA:UFBGA-169_7x7mm_Layout13x13_P0.5mm; Datasheet: https://www.st.com/resource/en/datasheet/stm32l4r5ai.pdf; Description_: STMicroelectronics Arm Cortex-M4 MCU, 2048KB flash, 640KB RAM, 120 MHz, 1.71-3.6V, 136 GPIO, UFBGA169
pins: A1 PI10, A2 PH2, A3 VDD, A4 PE0, A5 PB4, A6 PB3, A7 VSS, A8 VDD, A9 PA15, A10 PA14, A11 PA13, A12 PI0, A13 PH14, B1 PI9, B2 PI7, B3 VSS, B4 PE1, B5 PB5, B6 VDDIO2, B7 PG9, B8 PD0, B9 PI6, B10 PI2, B11 PI1, B12 PH15, B13 PH12, C1 VDD, C2 VSS, C3 PI11, C4 PB8, C5 PB6, C6 PG15, C7 PD4, C8 PD1, C9 PH13, C10 PI3, C11 PI8, C12 VSS, C13 VDD, D1 PE4, D2 PE3, D3 PE2, D4 PB9, D5 PB7, D6 PG10, D7 PD5, D8 PD2, D9 PC10, D10 PI4, D11 PH9, D12 PH7, D13 PA12, E1 PC13, E2 VBAT, E3 PE6, E4 PE5, E5 PH3, E6 PG11, E7 PD6, E8 PD3, E9 PC11, E10 PI5, E11 PH6, E12 VDDUSB, E13 PA11, F1 PC14, F2 VSS, F3 PF2, F4 PF1, F5 PF0, F6 PG12, F7 PD7, F8 PC12, F9 PA10, F10 PA9, F11 PC6, F12 VDDIO2, F13 VSS, G1 PC15, G2 VDD, G3 PF3, G4 PF4, G5 PF5, G6 PG14, G7 PG13, G8 PA8, G9 PC9, G10 PC8, G11 PG6, G12 PC7, G13 VDD, H1 PH0, H2 VSS, H3 NRST, H4 PF10, H5 PC4, H6 PG1, H7 PE10, H8 PB11, H9 PG8, H10 PG7, H11 PD15, H12 VSS, H13 VDD, J1 PH1, J2 PC0, J3 PC1, J4 PC2, J5 PC5, J6 PG0, J7 PE9, J8 PE15, J9 PG5, J10 PG4, J11 PG3, J12 PG2, J13 PD10, K1 PC3, K2 VSSA, K3 PA0, K4 PA5, K5 PB0, K6 PF15, K7 PE8, K8 PE14, K9 PH4, K10 PD14, K11 PD12, K12 PD11, K13 PD13, L1 VREF+, L2 VDDA, L3 PA4, L4 PA7, L5 PB1, L6 PF14, L7 PE7, L8 PE13, L9 PH5, L10 PD9, L11 PD8, L12 VDD, L13 VSS, M1 OPAMP1_VINM, M2 PA3, M3 VSS, M4 PA6, M5 PF11, M6 PF13, M7 VSS, M8 PE12, M9 PH10, M10 PH11, M11 VSS, M12 PB15, M13 PB14, N1 PA2, N2 PA1, N3 VDD, N4 OPAMP2_VINM, N5 PB2, N6 PF12, N7 VDD, N8 PE11, N9 PB10, N10 PH8, N11 VDD, N12 PB12, N13 PB13

## STM32L4R5Q_G-I_Ix
designator U?  value STM32L4R5Q_G-I_Ix  Reference: U
STMicroelectronics Arm Cortex-M4 MCU, 1024-2048KB flash, 640KB RAM, 120 MHz, 1.71-3.6V, 110 GPIO, UFBGA132; ki_keywords: Arm Cortex-M4 STM32L4+ STM32L4R5/S5; ki_fp_filters: UFBGA*7x7mm*Layout12x12*P0.5mm*; Footprint: Package_BGA:UFBGA-132_7x7mm_Layout12x12_P0.5mm; Datasheet: https://www.st.com/resource/en/datasheet/stm32l4r5qg.pdf; Description_: STMicroelectronics Arm Cortex-M4 MCU, 1024-2048KB flash, 640KB RAM, 120 MHz, 1.71-3.6V, 110 GPIO, UFBGA132
pins: A1 PE3, A2 PE1, A3 PB8, A4 PH3, A5 PD7, A6 PD5, A7 PB4, A8 PB3, A9 PA15, A10 PA14, A11 PA13, A12 PA12, B1 PE4, B2 PE2, B3 PB9, B4 PB7, B5 PB6, B6 PD6, B7 PD4, B8 PD3, B9 PD1, B10 PC12, B11 PC10, B12 PA11, C1 PC13, C2 PE5, C3 PE0, C4 VDD, C5 PB5, C6 PG14, C7 PG13, C8 PD2, C9 PD0, C10 PC11, C11 VDDUSB, C12 PA10, D1 PC14, D2 PE6, D3 VSS, D4 PF2, D5 PF1, D6 PF0, D7 PG12, D8 PG10, D9 PG9, D10 PA9, D11 PA8, D12 PC9, E1 PC15, E2 VBAT, E3 VSS, E4 PF3, E9 PG5, E10 PC8, E11 PC7, E12 PC6, F1 PH0, F2 VSS, F3 PF4, F4 PF5, F6 VSS, F7 VSS, F9 PG3, F10 PG4, F11 VSS, F12 VSS, G1 PH1, G2 VDD, G3 PG11, G4 PG6, G6 VDD, G7 VDDIO2, G9 PG1, G10 PG2, G11 VDD, G12 VDD, H1 PC0, H2 NRST, H3 VDD, H4 PG7, H9 PG0, H10 PD15, H11 PD14, H12 PD13, J1 VSSA, J2 PC1, J3 PC2, J4 PA4, J5 PA7, J6 PG8, J7 PF12, J8 PF14, J9 PF15, J10 PD12, J11 PD11, J12 PD10, K1 PG15, K2 PC3, K3 PA2, K4 PA5, K5 PC4, K6 PF11, K7 PF13, K8 PD9, K9 PD8, K10 PB15, K11 PB14, K12 PB13, L1 VREF+, L2 PA0, L3 PA3, L4 PA6, L5 PC5, L6 PB2, L7 PE8, L8 PE10, L9 PE12, L10 PB10, L11 PB11, L12 PB12, M1 VDDA, M2 PA1, M3 OPAMP1_VINM, M4 OPAMP2_VINM, M5 PB0, M6 PB1, M7 PE7, M8 PE9, M9 PE11, M10 PE13, M11 PE14, M12 PE15

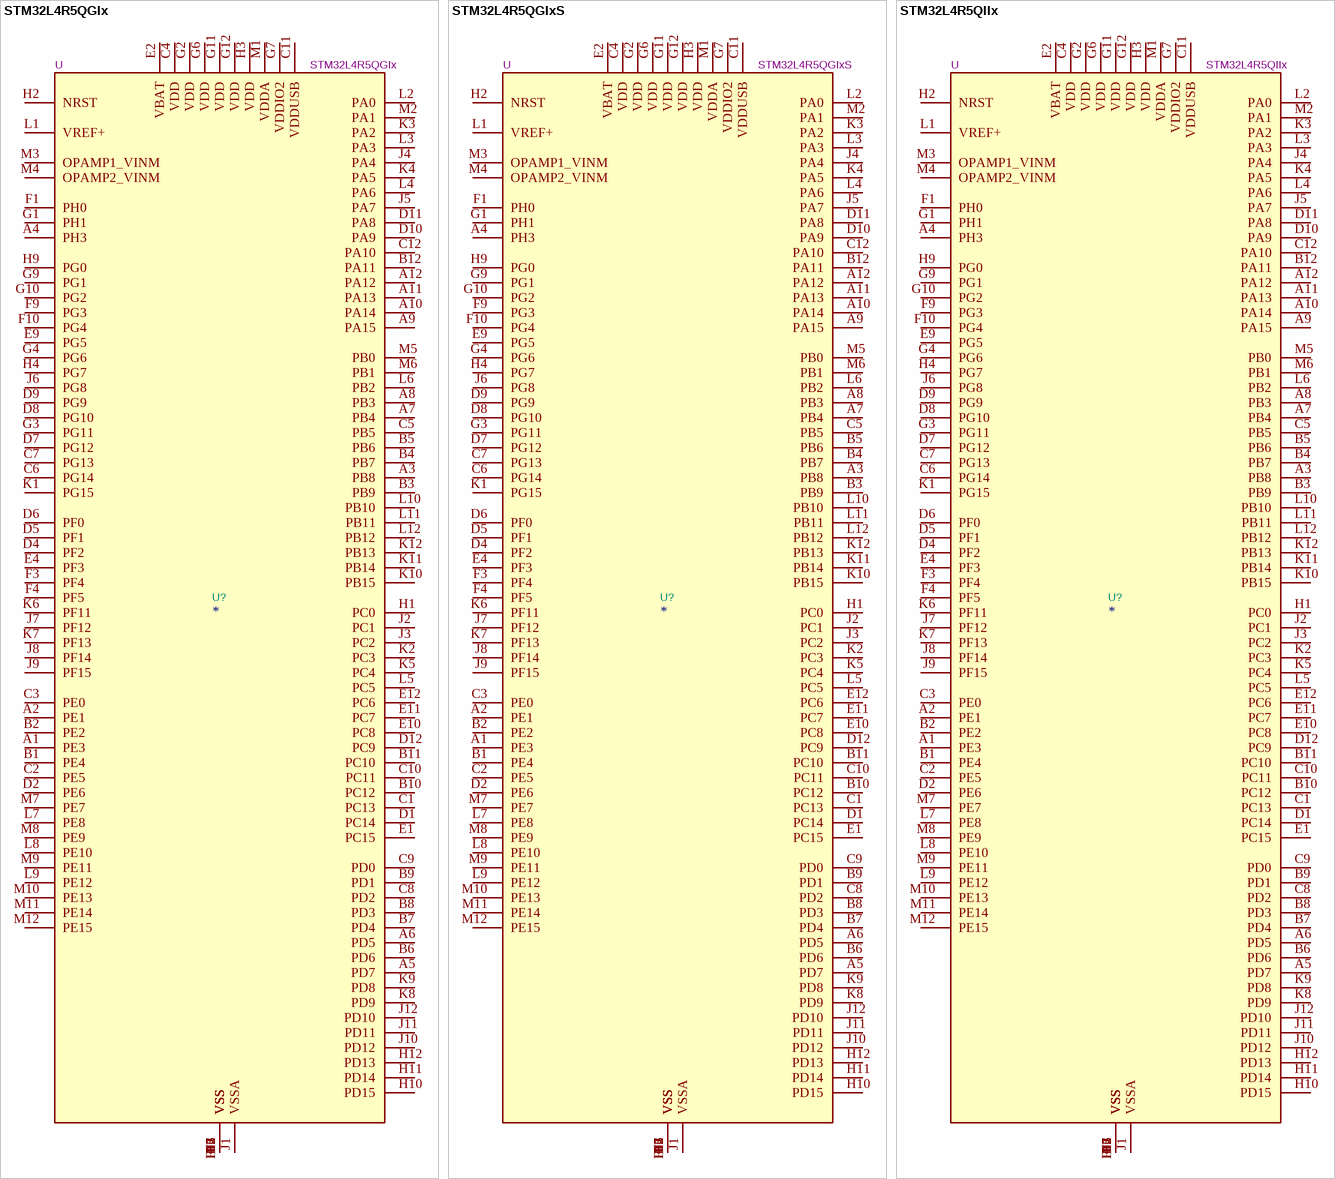
[diagram p17: symbols STM32L4R5QGIx to STM32L4R5QIIx]

## STM32L4R5QGIx
designator U?  value STM32L4R5QGIx  Reference: U
STMicroelectronics Arm Cortex-M4 MCU, 1024KB flash, 640KB RAM, 120 MHz, 1.71-3.6V, 110 GPIO, UFBGA132; ki_keywords: Arm Cortex-M4 STM32L4+ STM32L4R5/S5; ki_fp_filters: UFBGA*7x7mm*Layout12x12*P0.5mm*; Footprint: Package_BGA:UFBGA-132_7x7mm_Layout12x12_P0.5mm; Datasheet: https://www.st.com/resource/en/datasheet/stm32l4r5qg.pdf; Description_: STMicroelectronics Arm Cortex-M4 MCU, 1024KB flash, 640KB RAM, 120 MHz, 1.71-3.6V, 110 GPIO, UFBGA132
pins: A1 PE3, A2 PE1, A3 PB8, A4 PH3, A5 PD7, A6 PD5, A7 PB4, A8 PB3, A9 PA15, A10 PA14, A11 PA13, A12 PA12, B1 PE4, B2 PE2, B3 PB9, B4 PB7, B5 PB6, B6 PD6, B7 PD4, B8 PD3, B9 PD1, B10 PC12, B11 PC10, B12 PA11, C1 PC13, C2 PE5, C3 PE0, C4 VDD, C5 PB5, C6 PG14, C7 PG13, C8 PD2, C9 PD0, C10 PC11, C11 VDDUSB, C12 PA10, D1 PC14, D2 PE6, D3 VSS, D4 PF2, D5 PF1, D6 PF0, D7 PG12, D8 PG10, D9 PG9, D10 PA9, D11 PA8, D12 PC9, E1 PC15, E2 VBAT, E3 VSS, E4 PF3, E9 PG5, E10 PC8, E11 PC7, E12 PC6, F1 PH0, F2 VSS, F3 PF4, F4 PF5, F6 VSS, F7 VSS, F9 PG3, F10 PG4, F11 VSS, F12 VSS, G1 PH1, G2 VDD, G3 PG11, G4 PG6, G6 VDD, G7 VDDIO2, G9 PG1, G10 PG2, G11 VDD, G12 VDD, H1 PC0, H2 NRST, H3 VDD, H4 PG7, H9 PG0, H10 PD15, H11 PD14, H12 PD13, J1 VSSA, J2 PC1, J3 PC2, J4 PA4, J5 PA7, J6 PG8, J7 PF12, J8 PF14, J9 PF15, J10 PD12, J11 PD11, J12 PD10, K1 PG15, K2 PC3, K3 PA2, K4 PA5, K5 PC4, K6 PF11, K7 PF13, K8 PD9, K9 PD8, K10 PB15, K11 PB14, K12 PB13, L1 VREF+, L2 PA0, L3 PA3, L4 PA6, L5 PC5, L6 PB2, L7 PE8, L8 PE10, L9 PE12, L10 PB10, L11 PB11, L12 PB12, M1 VDDA, M2 PA1, M3 OPAMP1_VINM, M4 OPAMP2_VINM, M5 PB0, M6 PB1, M7 PE7, M8 PE9, M9 PE11, M10 PE13, M11 PE14, M12 PE15